# Altium schematic symbol library LVKON-MotorCtrl_YA.SCHLIB: 188 symbols (part 1 of 2)
Pins are listed as number, name and electrical type; pins without a type are passive.

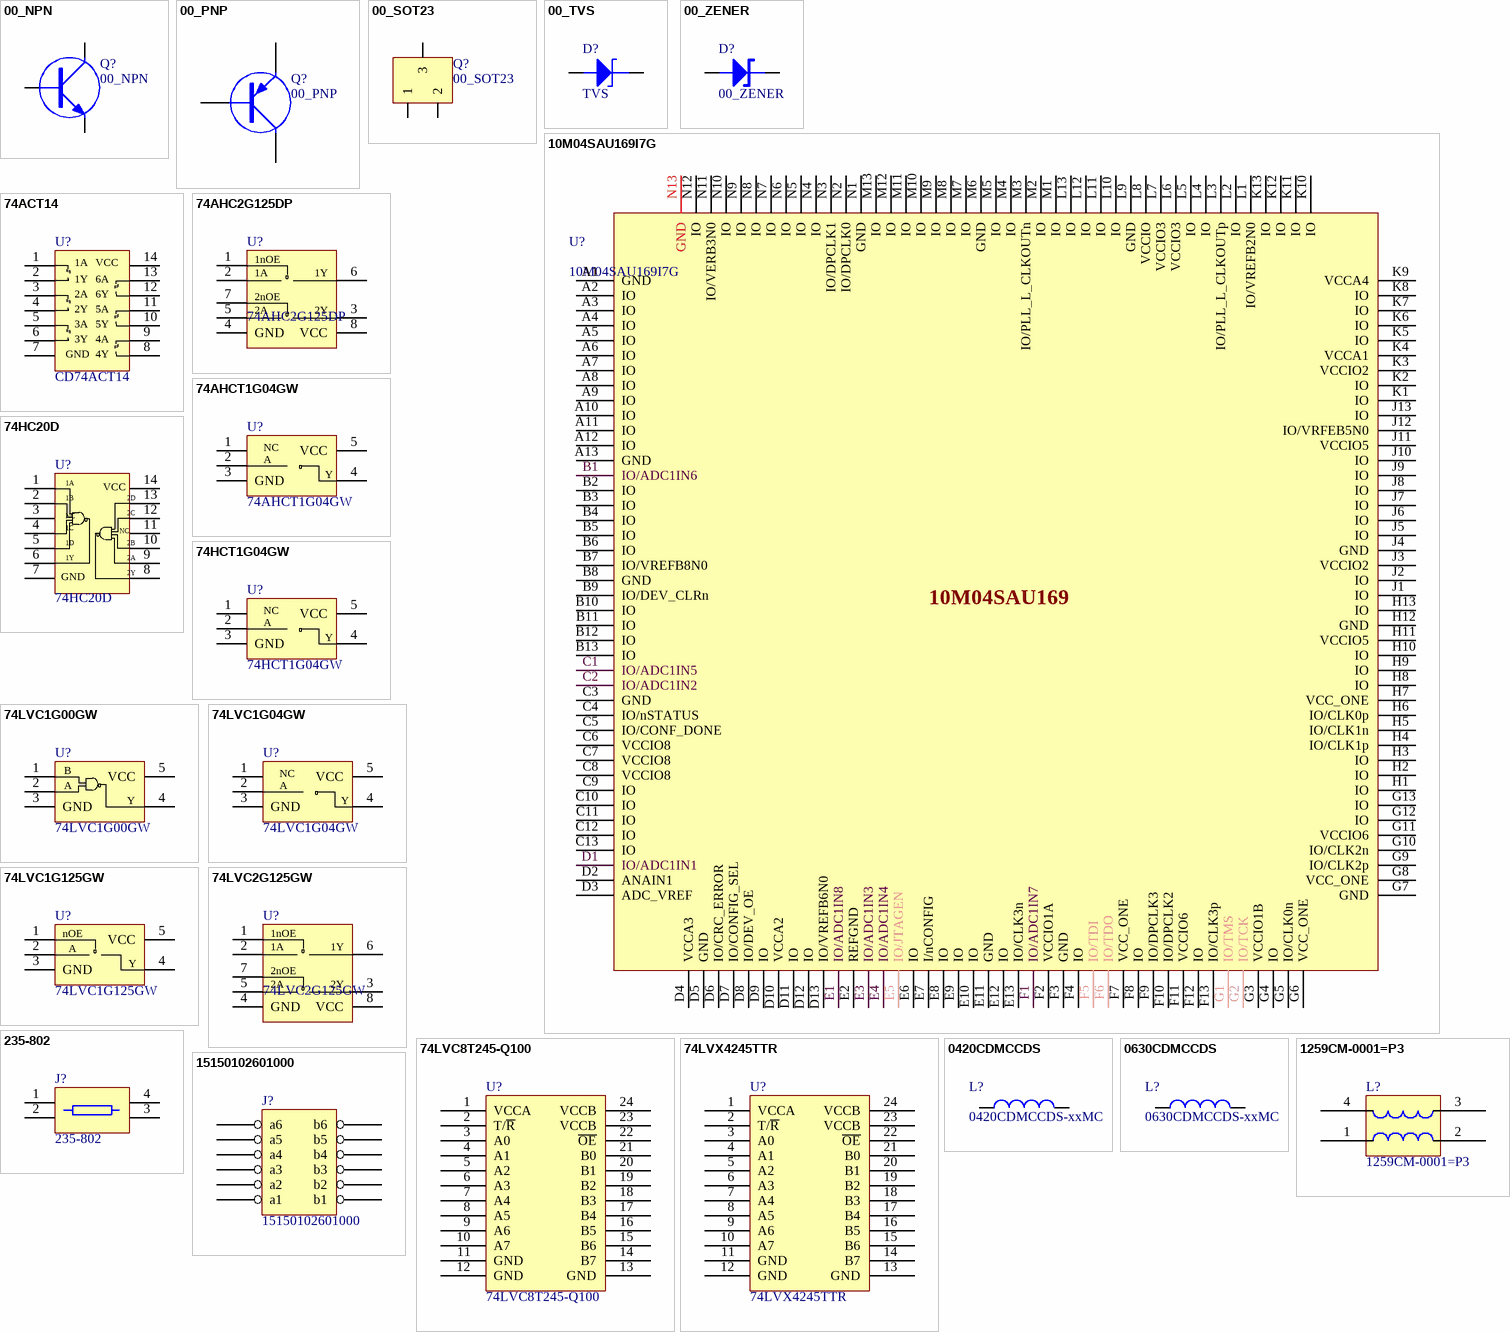
[diagram p0: symbols 00_NPN to 15150102601000]

## 00_NPN
designator Q?
NPN for Normal  Using
footprint TO252
pins: 1, 2, 3
2 alternate drawings of the same symbol

## 00_PNP
designator Q?
PNP Transistor
footprint SOT23
pins: 1 B, 2 C, 3 E
2 alternate drawings of the same symbol

## 00_SOT23
designator Q?
for normal SOT23 footprint
footprint SOT23
pins: 1, 2, 3
2 alternate drawings of the same symbol

## 00_TVS
designator D?, comment TVS
Zener Diode
footprint SMB (Molded Capacitor, 2-Leads, Body 5.40x3.60mm, IPC Medium Density)
pins: 1 K, 2 A
2 alternate drawings of the same symbol

## 00_ZENER
designator D?
footprint 1206D
pins: 1, 2

## 10M04SAU169I7G
designator U?
MAX10 devices are single-chip, non-volatile low-cost programmable logic devices (PLDs) to integrate  the optimal set of system components; Brand: Altera; Grade: Industrial; Power Dissipation: 1.362W; Supply Volatge: 3.3V/Single
footprint UBGA-169P (BGA, 169-Leads, Body 11.00x11.00mmx1.40mm, Pitch 0.80mm)
pins: A1 GND, A2 IO, A3 IO, A4 IO, A5 IO, A6 IO, A7 IO, A8 IO, A9 IO, A10 IO, A11 IO, A12 IO, A13 GND, B1 IO/ADC1IN6, B2 IO, B3 IO, B4 IO, B5 IO, B6 IO, B7 IO/VREFB8N0, B8 GND, B9 IO/DEV_CLRn, B10 IO, B11 IO, B12 IO, B13 IO, C1 IO/ADC1IN5, C2 IO/ADC1IN2, C3 GND, C4 IO/nSTATUS, C5 IO/CONF_DONE, C6 VCCIO8, C7 VCCIO8, C8 VCCIO8, C9 IO, C10 IO, C11 IO, C12 IO, C13 IO, D1 IO/ADC1IN1, D2 ANAIN1, D3 ADC_VREF, D4 VCCA3, D5 GND, D6 IO/CRC_ERROR, D7 IO/CONFIG_SEL, D8 IO/DEV_OE, D9 IO, D10 VCCA2, D11 IO, D12 IO, D13 IO/VREFB6N0, E1 IO/ADC1IN8, E2 REFGND, E3 IO/ADC1IN3, E4 IO/ADC1IN4, E5 IO/JTAGEN, E6 IO, E7 I/nCONFIG, E8 IO, E9 IO, E10 IO, E11 GND, E12 IO, E13 IO/CLK3n, F1 IO/ADC1IN7, F2 VCCIO1A, F3 GND, F4 IO, F5 IO/TDI, F6 IO/TDO, F7 VCC_ONE, F8 IO, F9 IO/DPCLK3, F10 IO/DPCLK2, F11 VCCIO6, F12 IO, F13 IO/CLK3p, G1 IO/TMS, G2 IO/TCK, G3 VCCIO1B, G4 IO, G5 IO/CLK0n, G6 VCC_ONE, G7 GND, G8 VCC_ONE, G9 IO/CLK2p, G10 IO/CLK2n, G11 VCCIO6, G12 IO, G13 IO, H1 IO, H2 IO, H3 IO, H4 IO/CLK1p, H5 IO/CLK1n, H6 IO/CLK0p, H7 VCC_ONE, H8 IO, H9 IO, H10 IO, H11 VCCIO5, H12 GND, H13 IO, J1 IO, J2 IO, J3 VCCIO2, J4 GND, J5 IO, J6 IO, J7 IO, J8 IO, J9 IO, J10 IO, J11 VCCIO5, J12 IO/VRFEB5N0, J13 IO, K1 IO, K2 IO, K3 VCCIO2, K4 VCCA1, K5 IO, K6 IO, K7 IO, K8 IO, K9 VCCA4, K10 IO, K11 IO, K12 IO, K13 IO, L1 IO/VREFB2N0, L2 IO, L3 IO/PLL_L_CLKOUTp, L4 IO, L5 IO, L6 VCCIO3, L7 VCCIO3, L8 VCCIO, L9 GND, L10 IO, L11 IO, L12 IO, L13 IO, M1 IO, M2 IO, M3 IO/PLL_L_CLKOUTn, M4 IO, M5 IO, M6 GND, M7 IO, M8 IO, M9 IO, M10 IO, M11 IO, M12 IO, M13 IO, N1 GND, N2 IO/DPCLK0, N3 IO/DPCLK1, N4 IO, N5 IO, N6 IO, N7 IO, N8 IO, N9 IO, N10 IO, N11 IO/VERB3N0, N12 IO, N13 GND
text: 10M04SAU169

## 74ACT14
designator U?, comment CD74ACT14
Hex Inverter Schmitt  Trigger
footprint SO-14
pins: 1 1A, 2 1Y, 3 2A, 4 2Y, 5 3A, 6 3Y, 7 GND, 8 4Y, 9 4A, 10 5Y, 11 5A, 12 6Y, 13 6A, 14 VCC

## 74AHC2G125DP
designator U?
Bus buffer/line driver; 3-state; Brand: Nexperia; supply voltage: 2-5.5V; Iout: 24mA; Operation Tempture: -40-+125℃
footprint TSSOP-8 (TSOP, 8-Leads, Body 3.00x3.00mm, Pitch 0.65mm, IPC Medium Density)
pins: 1, 2, 3, 4 GND, 5, 6 Y, 7, 8 VCC
text: 1nOE; 1A; 1Y; 2nOE; 2A; 2Y

## 74AHCT1G04GW
designator U?
74AHC1G04 and 74AHCT1G04 are high-speed Si-gate CMOS devices. They provide an  inverting buffer.; Brand: Nexperia; supply voltage: 4.5-5.5V; Iout: 12.5mA; Operation Tempture: -40-+125℃
footprint SOT353-1 (SOT23, 5-Leads, Body 2.05x2.13mm, Pitch 0.65mm, IPC Medium Density)
pins: 1 NC, 2 A, 3 GND, 4 Y, 5 VCC

## 74HC20D
designator U?
Dual 4-input NAND gate; Brand: Nexperia; Operation Tempture: -40-+125℃; tPHL/ tPLHmax: 135ns; tTHL/ tTLHmax: 110ns
footprint SO-14
pins: 1 1A, 2 1B, 3 NC, 4 1C, 5 1D, 6 1Y, 7 GND, 8 2Y, 9 2A, 10 2B, 11 NC, 12 2C, 13 2D, 14 VCC

## 74HCT1G04GW
designator U?
Single inverter; Brand: Nexperia; supply voltage: 4.5-5.5V; Iout: 12.5mA; Operation Tempture: -40-+125℃
footprint SOT353-1 (SOT23, 5-Leads, Body 2.05x2.13mm, Pitch 0.65mm, IPC Medium Density)
pins: 1 NC, 2 A, 3 GND, 4 Y, 5 VCC

## 74LVC1G00GW
designator U?
Single 2-input NAND gate; Brand: Nexperia; supply voltage: 1.65-5.5V; Iout: 24mA; Operation Tempture: -40-+125℃
footprint SOT353-1 (SOT23, 5-Leads, Body 2.05x2.13mm, Pitch 0.65mm, IPC Medium Density)
pins: 1 B, 2 A, 3 GND, 4 Y, 5 VCC

## 74LVC1G04GW
designator U?
Single inverter; Brand: Nexperia; supply voltage: 1.65-5.5V; Iout: 24mA; Operation Tempture: -40-+125℃
footprint SOT353-1 (SOT23, 5-Leads, Body 2.05x2.13mm, Pitch 0.65mm, IPC Medium Density)
pins: 1 NC, 2 A, 3 GND, 4 Y, 5 VCC

## 74LVC1G125GW
designator U?
Bus buffer/line driver; 3-state; Brand: Nexperia; supply voltage: 1.65-5.5V; Iout: 24mA; Operation Tempture: -40-+125℃
footprint SOT353-1 (SOT23, 5-Leads, Body 2.05x2.13mm, Pitch 0.65mm, IPC Medium Density)
pins: 1 ~{OE}, 2 A, 3 GND, 4 Y, 5 VCC
text: nOE

## 74LVC2G125GW
designator U?
Bus buffer/line driver; 3-state; Brand: Nexperia; supply voltage: 1.65-5.5V; Iout: 32mA; Operation Tempture: -40-+125℃; Logic switching levels: CMOS/LVTTL
footprint TSSOP-8 (TSOP, 8-Leads, Body 3.00x3.00mm, Pitch 0.65mm, IPC Medium Density)
pins: 1, 2, 3, 4 GND, 5, 6 Y, 7, 8 VCC
text: 1nOE; 1A; 1Y; 2nOE; 2A; 2Y

## 74LVC8T245-Q100
designator U?
OCTAL DUAL SUPPLY BUS TRANSCEIVER; Brand: Nxperia; VCCA: 4.5-5.5V; VCCB: 2.7-3.6V; Operating Temperature: -40+125℃
footprint TSSOP-24
pins: 1 VCCA, 2 T/~{R}, 3 A0, 4 A1, 5 A2, 6 A3, 7 A4, 8 A5, 9 A6, 10 A7, 11 GND, 12 GND, 13 GND, 14 B7, 15 B6, 16 B5, 17 B4, 18 B3, 19 B2, 20 B1, 21 B0, 22 ~{OE}, 23 VCCB, 24 VCCB

## 74LVX4245TTR
designator U?
OCTAL DUAL SUPPLY BUS TRANSCEIVER; Brand: ST; VCCA: 4.5-5.5V; VCCB: 2.7-3.6V; Operating Temperature: -55-+125℃
footprint TSSOP-24
pins: 1 VCCA, 2 T/~{R}, 3 A0, 4 A1, 5 A2, 6 A3, 7 A4, 8 A5, 9 A6, 10 A7, 11 GND, 12 GND, 13 GND, 14 B7, 15 B6, 16 B5, 17 B4, 18 B3, 19 B2, 20 B1, 21 B0, 22 ~{OE}, 23 VCCB, 24 VCCB

## 235-802
designator J?
Connector; Brand: WAGO
footprint WAGO235-802
pins: 1, 2, 3, 4

## 0420CDMCCDS
designator L?, comment 0420CDMCCDS-xxMC
SMD power inductors; Brand: Sumdia; Value: 22uH; Irms: 1.8A
footprint L0420
pins: 1, 2

## 0630CDMCCDS
designator L?, comment 0630CDMCCDS-xxMC
SMD power inductors; Brand: Sumdia; Value: 33uH; Irms: 1.8A
footprint L0630
pins: 1, 2

## 1259CM-0001=P3
designator L?
SMD type high current use common mode choke UCMH0907  series; Brand: Murata; Idc_max: 5A; Rdc: 10mR; Udc: 80V
footprint 1259CM-0001=P3
pins: 1 O+, 2 I+, 3 I-, 4 O-

## 15150102601000
designator J?
Connector board-2-board,2x6,male; Brand: Harting
footprint 15150102601000
pins: a1, a2, a3, a4, a5, a6, b1, b2, b3, b4, b5, b6

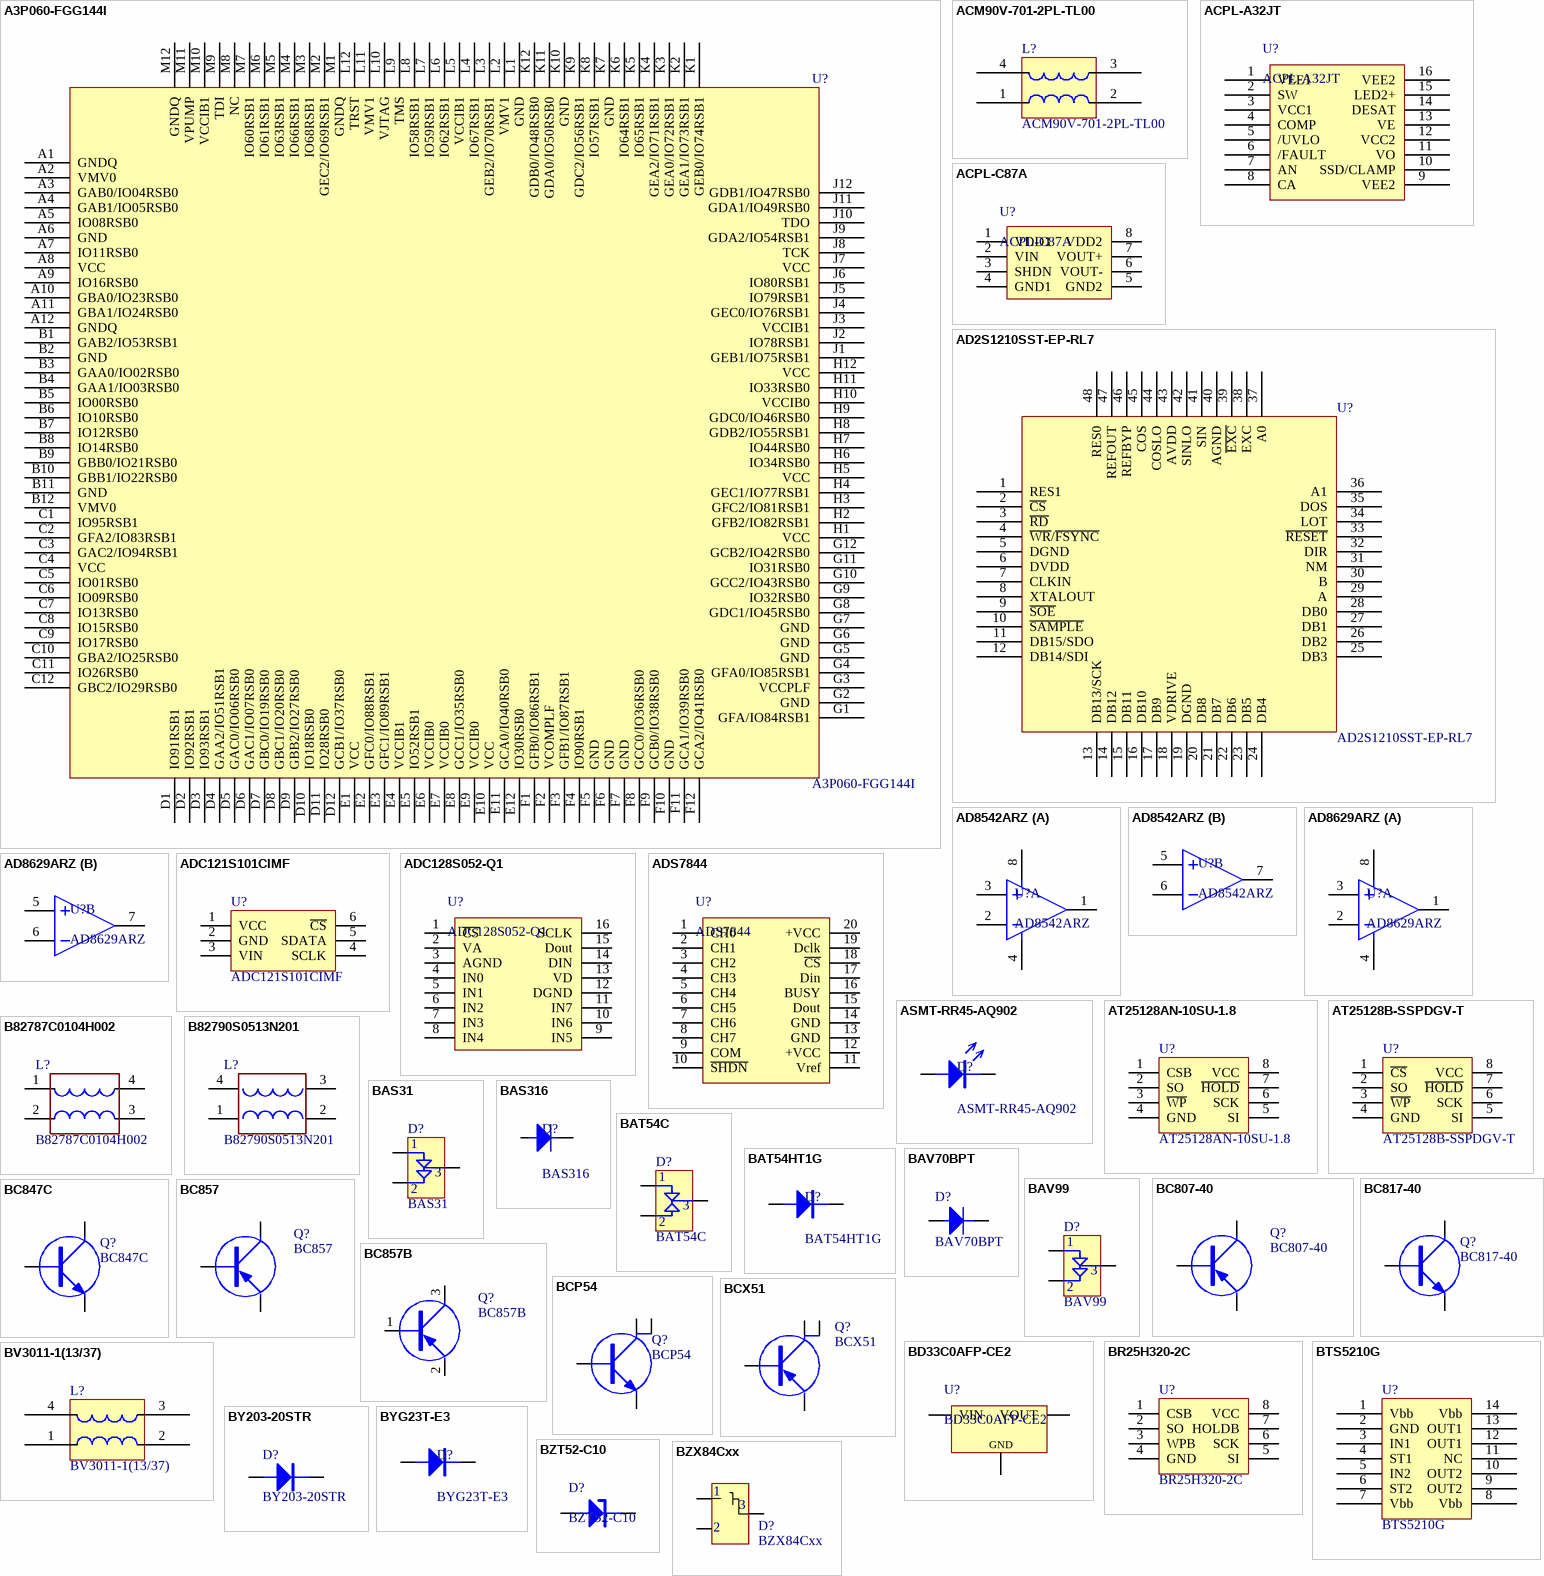
[diagram p1: symbols A3P060-FGG144I to BZX84Cxx]

## A3P060-FGG144I
designator U?
ProASIC3 Flash Family FPGAs  with Optional Soft ARM® Support; Brand: Actel; System Gates: 600 k; RAM kbits: 108; FlashROM Bits: 1 k; Operating temperature: -40-85
footprint FBGA-144P
pins: A1 GNDQ, A2 VMV0, A3 GAB0/IO04RSB0, A4 GAB1/IO05RSB0, A5 IO08RSB0, A6 GND, A7 IO11RSB0, A8 VCC, A9 IO16RSB0, A10 GBA0/IO23RSB0, A11 GBA1/IO24RSB0, A12 GNDQ, B1 GAB2/IO53RSB1, B2 GND, B3 GAA0/IO02RSB0, B4 GAA1/IO03RSB0, B5 IO00RSB0, B6 IO10RSB0, B7 IO12RSB0, B8 IO14RSB0, B9 GBB0/IO21RSB0, B10 GBB1/IO22RSB0, B11 GND, B12 VMV0, C1 IO95RSB1, C2 GFA2/IO83RSB1, C3 GAC2/IO94RSB1, C4 VCC, C5 IO01RSB0, C6 IO09RSB0, C7 IO13RSB0, C8 IO15RSB0, C9 IO17RSB0, C10 GBA2/IO25RSB0, C11 IO26RSB0, C12 GBC2/IO29RSB0, D1 IO91RSB1, D2 IO92RSB1, D3 IO93RSB1, D4 GAA2/IO51RSB1, D5 GAC0/IO06RSB0, D6 GAC1/IO07RSB0, D7 GBC0/IO19RSB0, D8 GBC1/IO20RSB0, D9 GBB2/IO27RSB0, D10 IO18RSB0, D11 IO28RSB0, D12 GCB1/IO37RSB0, E1 VCC, E2 GFC0/IO88RSB1, E3 GFC1/IO89RSB1, E4 VCCIB1, E5 IO52RSB1, E6 VCCIB0, E7 VCCIB0, E8 GCC1/IO35RSB0, E9 VCCIB0, E10 VCC, E11 GCA0/IO40RSB0, E12 IO30RSB0, F1 GFB0/IO86RSB1, F2 VCOMPLF, F3 GFB1/IO87RSB1, F4 IO90RSB1, F5 GND, F6 GND, F7 GND, F8 GCC0/IO36RSB0, F9 GCB0/IO38RSB0, F10 GND, F11 GCA1/IO39RSB0, F12 GCA2/IO41RSB0, G1 GFA/IO84RSB1, G2 GND, G3 VCCPLF, G4 GFA0/IO85RSB1, G5 GND, G6 GND, G7 GND, G8 GDC1/IO45RSB0, G9 IO32RSB0, G10 GCC2/IO43RSB0, G11 IO31RSB0, G12 GCB2/IO42RSB0, H1 VCC, H2 GFB2/IO82RSB1, H3 GFC2/IO81RSB1, H4 GEC1/IO77RSB1, H5 VCC, H6 IO34RSB0, H7 IO44RSB0, H8 GDB2/IO55RSB1, H9 GDC0/IO46RSB0, H10 VCCIB0, H11 IO33RSB0, H12 VCC, J1 GEB1/IO75RSB1, J2 IO78RSB1, J3 VCCIB1, J4 GEC0/IO76RSB1, J5 IO79RSB1, J6 IO80RSB1, J7 VCC, J8 TCK, J9 GDA2/IO54RSB1, J10 TDO, J11 GDA1/IO49RSB0, J12 GDB1/IO47RSB0, K1 GEB0/IO74RSB1, K2 GEA1/IO73RSB1, K3 GEA0/IO72RSB1, K4 GEA2/IO71RSB1, K5 IO65RSB1, K6 IO64RSB1, K7 GND, K8 IO57RSB1, K9 GDC2/IO56RSB1, K10 GND, K11 GDA0/IO50RSB0, K12 GDB0/IO48RSB0, L1 GND, L2 VMV1, L3 GEB2/IO70RSB1, L4 IO67RSB1, L5 VCCIB1, L6 IO62RSB1, L7 IO59RSB1, L8 IO58RSB1, L9 TMS, L10 VJTAG, L11 VMV1, L12 TRST, M1 GNDQ, M2 GEC2/IO69RSB1, M3 IO68RSB1, M4 IO66RSB1, M5 IO63RSB1, M6 IO61RSB1, M7 IO60RSB1, M8 NC, M9 TDI, M10 VCCIB1, M11 VPUMP, M12 GNDQ
2 alternate drawings of the same symbol

## ACM90V-701-2PL-TL00
designator L?
Brand: TDK; Idc_max: 5A; Rdc: 10mR; Udc: 80V
footprint ACM90V-701-2PL-TL00
pins: 1 O+, 2 I+, 3 I-, 4 O-

## ACPL-A32JT
designator U?
Automotive 2.5 Amp Gate Drive Optocoupler with Integrated Flyback Controller for Isolated DC-DC Converter, Integrated IGBT Desat Overcurrent Sensing, Miller Current Clamping and UVLO Feedback; regulated output voltage: 20V; peak output current: 2.5A max; miller clamp sinking current: 1.7A max; input voltage range: 8-18V; propagation delay: 250ns max; Brand: Avago; temperature range: -40-125℃
footprint SO-16-WIDE (SOIC, 16-Leads, Body 10.43x0.20mm, Pitch 1.27mm, IPC Medium Density)
pins: 1 VEE1, 2 SW, 3 VCC1, 4 COMP, 5 /UVLO, 6 /FAULT, 7 AN, 8 CA, 9 VEE2, 10 SSD/CLAMP, 11 VO, 12 VCC2, 13 VE, 14 DESAT, 15 LED2+, 16 VEE2

## ACPL-C87A
designator U?
Precision Optically Isolated Voltage Sensor; VDD1: 4.5-5.5V; VDD2: 3-5V; Brand: Avago; VIN: 0-2V; Operating Temperature: -40-105℃
footprint SSO-8 (SOP, 8-Leads, Body 5.85x6.81mm, Pitch 1.27mm, IPC Medium Density)
pins: 1 VDD1, 2 VIN, 3 SHDN, 4 GND1, 5 GND2, 6 VOUT-, 7 VOUT+, 8 VDD2

## AD2S1210SST-EP-RL7
designator U?
Variable Resolution, 10-Bit to 16-Bit R/D  Converter with Reference Oscillator; Brand: Analog Devices; Operation Temperature: -40°C to +125°C
footprint LQFP-48 (TSQFP, 48-Leads, Body 7.00x7.00mm, Pitch 0.50mm, IPC Medium Density)
pins: 1 RES1, 2 ~{CS}, 3 ~{RD}, 4 ~{WR}/~{FSYNC}, 5 DGND, 6 DVDD, 7 CLKIN, 8 XTALOUT, 9 ~{SOE}, 10 ~{SAMPLE}, 11 DB15/SDO, 12 DB14/SDI, 13 DB13/SCK, 14 DB12, 15 DB11, 16 DB10, 17 DB9, 18 VDRIVE, 19 DGND, 20 DB8, 21 DB7, 22 DB6, 23 DB5, 24 DB4, 25 DB3, 26 DB2, 27 DB1, 28 DB0, 29 A, 30 B, 31 NM, 32 DIR, 33 ~{RESET}, 34 LOT, 35 DOS, 36 A1, 37 A0, 38 EXC, 39 ~{EXC}, 40 AGND, 41 SIN, 42 SINLO, 43 AVDD, 44 COSLO, 45 COS, 46 REFBYP, 47 REFOUT, 48 RES0

## AD8542ARZ
designator U?
Rail to Rail  AMP; VDD1: 4.5-5.5V; VDD2: 3-5V; Brand: Avago; VIN: 0-2V; Operating Temperature: -40-105℃
footprint SOIC-8 (SOIC, 8-Leads, Body 4.90x3.90mm, Pitch 1.27mm, IPC Medium Density)
part A pins: 1, 2, 3, 4, 8
part B pins: 5, 6, 7

## AD8629ARZ
designator U?
Rail to Rail  AMP; Input voltage supply: 0-5V; Brand: ADI; Operating Temperature: -40-125℃
footprint SOIC-8 (SOIC, 8-Leads, Body 4.90x3.90mm, Pitch 1.27mm, IPC Medium Density)
part A pins: 1, 2, 3, 4, 8
part B pins: 5, 6, 7

## ADC121S101CIMF
designator U?
ADC121S101/ADC101S101/ADC081S101  1MSPS, 12-/10-/8-Bit A/D Converters in SOT-23 & LLP; Brand: National Semiconductor; Operation Tempreature: -40-+125℃
footprint SOT23-6
pins: 1 VCC, 2 GND, 3 VIN, 4 SCLK, 5 SDATA, 6 ~{CS}

## ADC128S052-Q1
designator U?
ADC128S052, ADC128S052-Q1 8-Channel, 200 kSPS to 500 kSPS, 12-Bit A/D Converter; Brand: TI; TEMPERATURE: -40 to 125
footprint TSSOP-16
pins: 1 ~{CS}, 2 VA, 3 AGND, 4 IN0, 5 IN1, 6 IN2, 7 IN3, 8 IN4, 9 IN5, 10 IN6, 11 IN7, 12 DGND, 13 VD, 14 DIN, 15 Dout, 16 SCLK

## ADS7844
designator U?
12-Bit, 8-Channel Serial Output Sampling  ANALOG-TO-DIGITAL CONVERTER; Brand: TI; TEMPERATURE: -40 to 85
footprint SSOP-20
pins: 1 CH0, 2 CH1, 3 CH2, 4 CH3, 5 CH4, 6 CH5, 7 CH6, 8 CH7, 9 COM, 10 ~{SHDN}, 11 Vref, 12 +VCC, 13 GND, 14 GND, 15 Dout, 16 BUSY, 17 Din, 18 ~{CS}, 19 Dclk, 20 +VCC

## ASMT-RR45-AQ902
designator D?
0.45mm Leadframe-Based Surface Mount ChipLED; Brand: AVAGO; colour: red; package: 0603; operating temperature: -40-100℃
footprint LED0603
pins: 1 K, 2 A

## AT25128AN-10SU-1.8
designator U?
SPI Serial  EEPROMs; Brand: Atmel; Operating Temperature: -55 -+125℃
footprint SOIC-8 (SOIC, 8-Leads, Body 4.90x3.90mm, Pitch 1.27mm, IPC Medium Density)
pins: 1 CSB, 2 SO, 3 ~{WP}, 4 GND, 5 SI, 6 SCK, 7 ~{HOLD}, 8 VCC

## AT25128B-SSPDGV-T
designator U?
SPI Serial  EEPROMs; Brand: Atmel; MARK: 8S1; Operating Temperature: -40 -+125℃
footprint SOIC-8 (SOIC, 8-Leads, Body 4.90x3.90mm, Pitch 1.27mm, IPC Medium Density)
pins: 1 ~{CS}, 2 SO, 3 ~{WP}, 4 GND, 5 SI, 6 SCK, 7 ~{HOLD}, 8 VCC

## B82787C0104H002
designator L?
Common-mode chokes, ring core; Brand: EPCOS; Rated voltage: DC50V; Lr: 100uH; Ir: 150mA
footprint B82787C0104H002
pins: 1, 2, 3, 4

## B82790S0513N201
designator L?
Common-mode chokes, ring core; Brand: EPCOS; Rated voltage: AC42V,DC80V; Lr: 0.051mH; Ir: 200 to 1000mA
footprint B82790S0513N201
pins: 1, 2, 3, 4

## BAS31
designator D?
Dual In-Series General-Purpose  Controlled-Avalanche Diode; Brand: Nexperia; IRRM: 600mA; IF: 150mA; Operation Temperature: -40-+125℃; MARK: WV1
footprint SOT23
pins: 1, 2, 3

## BAS316
designator D?
High-speed switching diodes; Brand: NXP; Reverse voltage: 100V; MARK: A6; Reverse recovery  time: 4ns
footprint SOD323
pins: 1, 2

## BAT54C
designator D?
Small Signal Schottky Diodes,Dual; Brand: VISHAY; IRRM: 300mA; IF: 200mA; Operation Temperature: -40-+125℃; MARK: L43; Ptot: 230mW; Repetitive peak reverse voltage: 30V
footprint SOT23
pins: 1, 2, 3

## BAT54HT1G
designator D?
Schottky Barrier Diodes; Brand: ON Semiconductor; junction temperature: -55-150℃; reverse voltage: 30V; forward voltage: 0.35V
footprint SOD323
pins: 1 K, 2 A
2 alternate drawings of the same symbol

## BAV70BPT
designator D?
FAST SWITCHING DIODE  VOLTAGE RANGE 100 Volts CURRENT 150 mAmpere; Brand: NXP; Reverse voltage: 100V; MARK: S1; Reverse recovery  time: 4ns; VF: 0.715-1.25V; Power dissipation: 350mW
footprint SOD123 (SODFL, 2-Leads, Body 1.60x3.70mm, IPC Medium Density)
pins: 1, 2

## BAV99
designator D?
High-speed switching diodes, encapsulated in small Surface-Mounted Device; Brand: General Semconductor/NXP; IRRM: 500mA; IF: 125mA; Operation Temperature: -40-+125℃; reverse voltage: 100V; MARK: A7
footprint SOT23
pins: 1, 2, 3

## BC807-40
designator Q?
-45 V, -500 mA  PNP general-purpose transistors; Brand: Nexperia; Mark: 5CW; VCBOmax: -45V; VEBOmax: -5V; Ic: -500mA; Icm: -1A; Ib: -0.3A; Ptot: 0.65W; VCEOmax: -45V
footprint SOT23
pins: 1 B, 2 E, 3 C

## BC817-40
designator Q?
45 V, 500 mA  NPN general-purpose transistors; Brand: Nexperia; Mark: 6CW; VCBOmax: 45V; VEBOmax: 5V; Ic: 500mA; Icm: 1A; Ib: 0.3A; Ptot: 0.65W; VCEOmax: 45V
footprint SOT23
pins: 1 B, 2 E, 3 C

## BC847C
designator Q?
45 V, 100 mA NPN general-purpose transistors; Brand: Nexperia; Mark: 1GW; VCBOmax: 45V; VEBOmax: 5V; Ic: 100mA; Icm: 200mA; Ib: 0.2A; Ptot: 0.25W; VCEOmax: 45V
footprint SOT23
pins: 1 B, 2 E, 3 C
2 alternate drawings of the same symbol

## BC857
designator Q?
-45 V, -100 mA  PNP general-purpose transistors; Brand: Nexperia; VCBOmax: -45V; VEBOmax: -5V; Ic: -100mA; Icm: -200mA; Ib: -0.3A; Ptot: 0.65W; VCEOmax: -45V
footprint SOT23
pins: 1 B, 2 E, 3 C
2 alternate drawings of the same symbol

## BC857B
designator Q?
-45 V, -100 mA  PNP general-purpose transistors; Brand: Nexperia; VCBOmax: -45V; VEBOmax: -5V; Ic: -100mA; Icm: -200mA; Ib: -0.3A; Ptot: 0.65W; VCEOmax: -45V
footprint SOT23
pins: 1 B, 2 E, 3 C
2 alternate drawings of the same symbol

## BCP54
designator Q?
NPN medium power transistor series in Surface-Mounted Device (SMD) plastic packages; Brand: Nexperia; VCBOmax: 45V; VEBOmax: 5V; Ic: 1A; Icm: 2A; Ib: 0.3A; Ptot: 0.65W; Mark: BCP54; VCEOmax: 45V
footprint SOT223 (SOT223, 4-Leads, Body 6.50x7.00mm (avg), Pitch 2.30mm, IPC Medium Density)
pins: 1 B, 2 C, 3 E, 4 C
2 alternate drawings of the same symbol

## BCX51
designator Q?
PNP medium power transistors 45 V, 1 A; Brand: Nexpeira; Mark: BCP54; VCBOmax: -45V; VEBOmax: -5V; Ic: -1A; Icm: -2A; Ib: -0.3A; Ptot: 0.65W; VCEOmax: -45V
footprint SOT89-1 (SOT89, 3-Leads, Body 4.50x2.45mm, Pitch 1.50mm, Lead Span 4.1mm, IPC Medium Density)
pins: 1 E, 2 C, 2 C, 3 B
2 alternate drawings of the same symbol

## BD33C0AFP-CE2
designator U?
35V Voltage Resistance  1A LDO Regulators; Brand: ROHM; Vin: 4.3-26.5V; Level: AECQ100; Iout_max: 1A; Operating Temperature Range: -40 to +125°C
footprint TO252-132
pins: 1 VIN, 2 GND, 3 VOUT

## BR25H320-2C
designator U?
SPI Serial  EEPROMs; Brand: ROHM; MARK: H320; Grade: AECQ100; Capacity: 32Kb; Supply Voltage: 2.5~5.5V; Operating Temperature: -40 -+125℃
footprint SOP-8
pins: 1 CSB, 2 SO, 3 WPB, 4 GND, 5 SI, 6 SCK, 7 HOLDB, 8 VCC

## BTS5210G
designator U?
Smart High-Side  Power Switch; Brand: Infineon; Supply voltage: 43V; IL: 3.4-3.9A; Operating temperature: -40+150
footprint PG-DSO-14-37
pins: 1 Vbb, 2 GND, 3 IN1, 4 ST1, 5 IN2, 6 ST2, 7 Vbb, 8 Vbb, 9 OUT2, 10 OUT2, 11 NC, 12 OUT1, 13 OUT1, 14 Vbb

## BV3011-1(13/37)
designator L?
footprint DFT-4
pins: 1 O+, 2 I+, 3 I-, 4 O-

## BY203-20STR
designator D?
Fast Avalanche Sinterglass Diode; Brand: VISHAY
footprint BY203
pins: 1, 2
2 alternate drawings of the same symbol

## BYG23T-E3
designator D?
Ultrafast Power Rectifier; Brand: VISHAY; junction temperature: -65-175℃; forward voltage: 1.74V@1A,150℃; peak repetitive reverse voltage: 1300V; average rectified forward current: 1A
footprint SMA (SODFL, 2-Leads, Body 2.60x5.30mm, IPC Medium Density)
pins: 1 K, 2 A

## BZT52-C10
designator D?
Zener Voltage Regulators; Brand: Nexperia; Power Dissipation: 500mW; Zener reverse voltage: 10V
footprint SOD123 (SODFL, 2-Leads, Body 1.60x3.70mm, IPC Medium Density)
pins: 1, 2

## BZX84Cxx
designator D?
350mW ZENER DIODE; Brand: Nexperia; Vfmax: 0.9V; If: 10mA
footprint SOT23
pins: 1, 2, 3

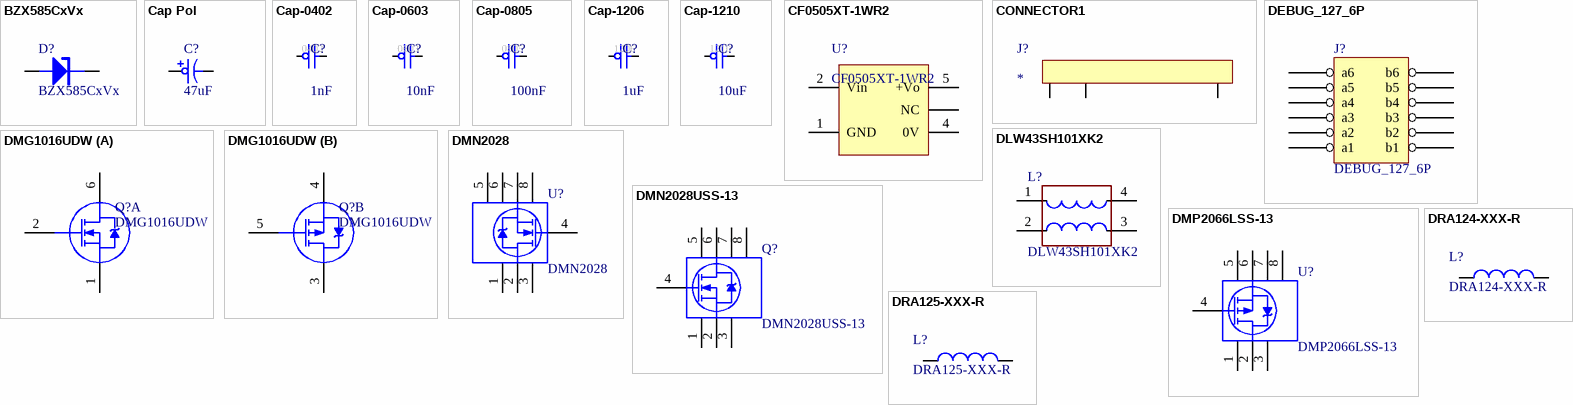
[diagram p2: symbols BZX585CxVx to DRA125-XXX-R]

## BZX585CxVx
designator D?
For all DIODES Using; Brand: Nexperia; MARK: Ex; Power Dissipation: 300mW
footprint SOD523
pins: 1, 2

## Cap Pol
designator C?, comment 47uF
Polarized Capacitor (Axial)  For DIP and SMD; Published: 14-Jul-2017; LatestRevisionDate: 14-Jul-2017; LatestRevisionNote: Re-released for DXP Platform.; PackageReference: POLAR0.8; Publisher: Altium Limited; PackageDescription: Polarized Capacitor; 2 Leads; Value: 47uF
footprint RB0.2/0.4
footprint CE
pins: 1, 2
1 alternate drawing of the same symbol

## Cap-0402
designator C?, comment 1nF
For SMD Capacitor; Published: 13-Jul-2017; LatestRevisionDate: 13-Jul-2017; LatestRevisionNote: Re-released for DXP Platform.; Publisher: Altium Limited; PackageDescription: Chip Cap; Value: 1nF
footprint C0402
pins: 1, 2
text: 0402

## Cap-0603
designator C?, comment 10nF
For SMD Capacitor; Published: 13-Jul-2017; LatestRevisionDate: 13-Jul-2017; LatestRevisionNote: Re-released for DXP Platform.; Publisher: Altium Limited; PackageDescription: Chip Cap; Value: 10nF
footprint C0603
pins: 1, 2
text: 0603

## Cap-0805
designator C?, comment 100nF
For SMD Capacitor; Published: 13-Jul-2017; LatestRevisionDate: 13-Jul-2017; LatestRevisionNote: Re-released for DXP Platform.; Publisher: Altium Limited; PackageDescription: Chip Cap; Value: 100nF
footprint C0805
pins: 1, 2
text: 0805

## Cap-1206
designator C?, comment 1uF
For SMD Capacitor; Published: 13-Jul-2017; LatestRevisionDate: 13-Jul-2017; LatestRevisionNote: Re-released for DXP Platform.; Publisher: Altium Limited; PackageDescription: Chip Cap; Value: 1uF
footprint C1206
pins: 1, 2
text: 1206

## Cap-1210
designator C?, comment 10uF
For SMD Capacitor; Published: 13-Jul-2017; LatestRevisionDate: 13-Jul-2017; LatestRevisionNote: Re-released for DXP Platform.; Publisher: Altium Limited; PackageDescription: Chip Cap; Value: 10uF
footprint C1210
pins: 1, 2
text: 1210

## CF0505XT-1WR2
designator U?
1W，定电压输入，隔离非稳压单路输出; Brand: MORNSUN; Isolate DC: 3500V
footprint CF0505XT-1WR2
pins: 1 GND, 2 Vin, 4 0V, 5 +Vo, 8 NC

## CONNECTOR1
designator J?
footprint 支架1
pins: 1, 1, 1

## DEBUG_127_6P
designator J?
Connector board-2-board,2x6,male; Brand: *
footprint DEBUG_127_6P (Footprint not found)
pins: a1, a2, a3, a4, a5, a6, b1, b2, b3, b4, b5, b6

## DLW43SH101XK2
designator L?
Common-mode chokes, ring core; Brand: Murata; Rated voltage: DC50V; Lr: 100uH; Ir: 150mA
footprint DLW43SH101XK2 (Footprint not found)
pins: 1, 2, 3, 4

## DMG1016UDW
designator Q?
COMPLEMENTARY PAIR ENHANCEMENT MODE MOSFET; Brand: DIODES; VDSS(Q1): 20V; VGSS(Q1): ±6V; VDSS(Q2): -20V; Id(Q1): 690-1066mA; Id(Q1): -548 to -845mA; VGSS(Q2): ±6V
footprint SOT363
part A pins: 1, 2, 6
part B pins: 3, 4, 5

## DMN2028
designator U?
20V N-CHANNEL ENHANCEMENT MODE MOSFET; Brand: DIODES; VDSS: 20V
footprint SO-8
pins: 1, 2, 3, 4, 5, 6, 7, 8

## DMN2028USS-13
designator Q?
20V N-CHANNEL ENHANCEMENT MODE MOSFET; Brand: DIODES; Gate-Source voltage: ±12; Id: 7.9A; Power dissipation: 1.56W; Drain-Source voltage: 20V
footprint SOIC-8 (SOIC, 8-Leads, Body 4.90x3.90mm, Pitch 1.27mm, IPC Medium Density)
pins: 1, 2, 3, 4, 5, 6, 7, 8

## DMP2066LSS-13
designator U?
SINGLE P-CHANNEL ENHANCEMENT MODE MOSFET; Brand: DIODES; Drain-Source Voltage: -20V; Idmax: -6.5A
footprint SOIC-8 (SOIC, 8-Leads, Body 4.90x3.90mm, Pitch 1.27mm, IPC Medium Density)
pins: 1, 2, 3, 4, 5, 6, 7, 8

## DRA124-XXX-R
designator L?
Automotive grade high current power inductors; Brand: EATON; Value: 33uH; Irms: 1.8A; DCR: 242mO
footprint L12124
pins: 1, 2

## DRA125-XXX-R
designator L?
Automotive grade high current power inductors; Brand: EATON; Value: 33uH; Irms: 1.8A; DCR: 242mO
footprint L12126
pins: 1, 2

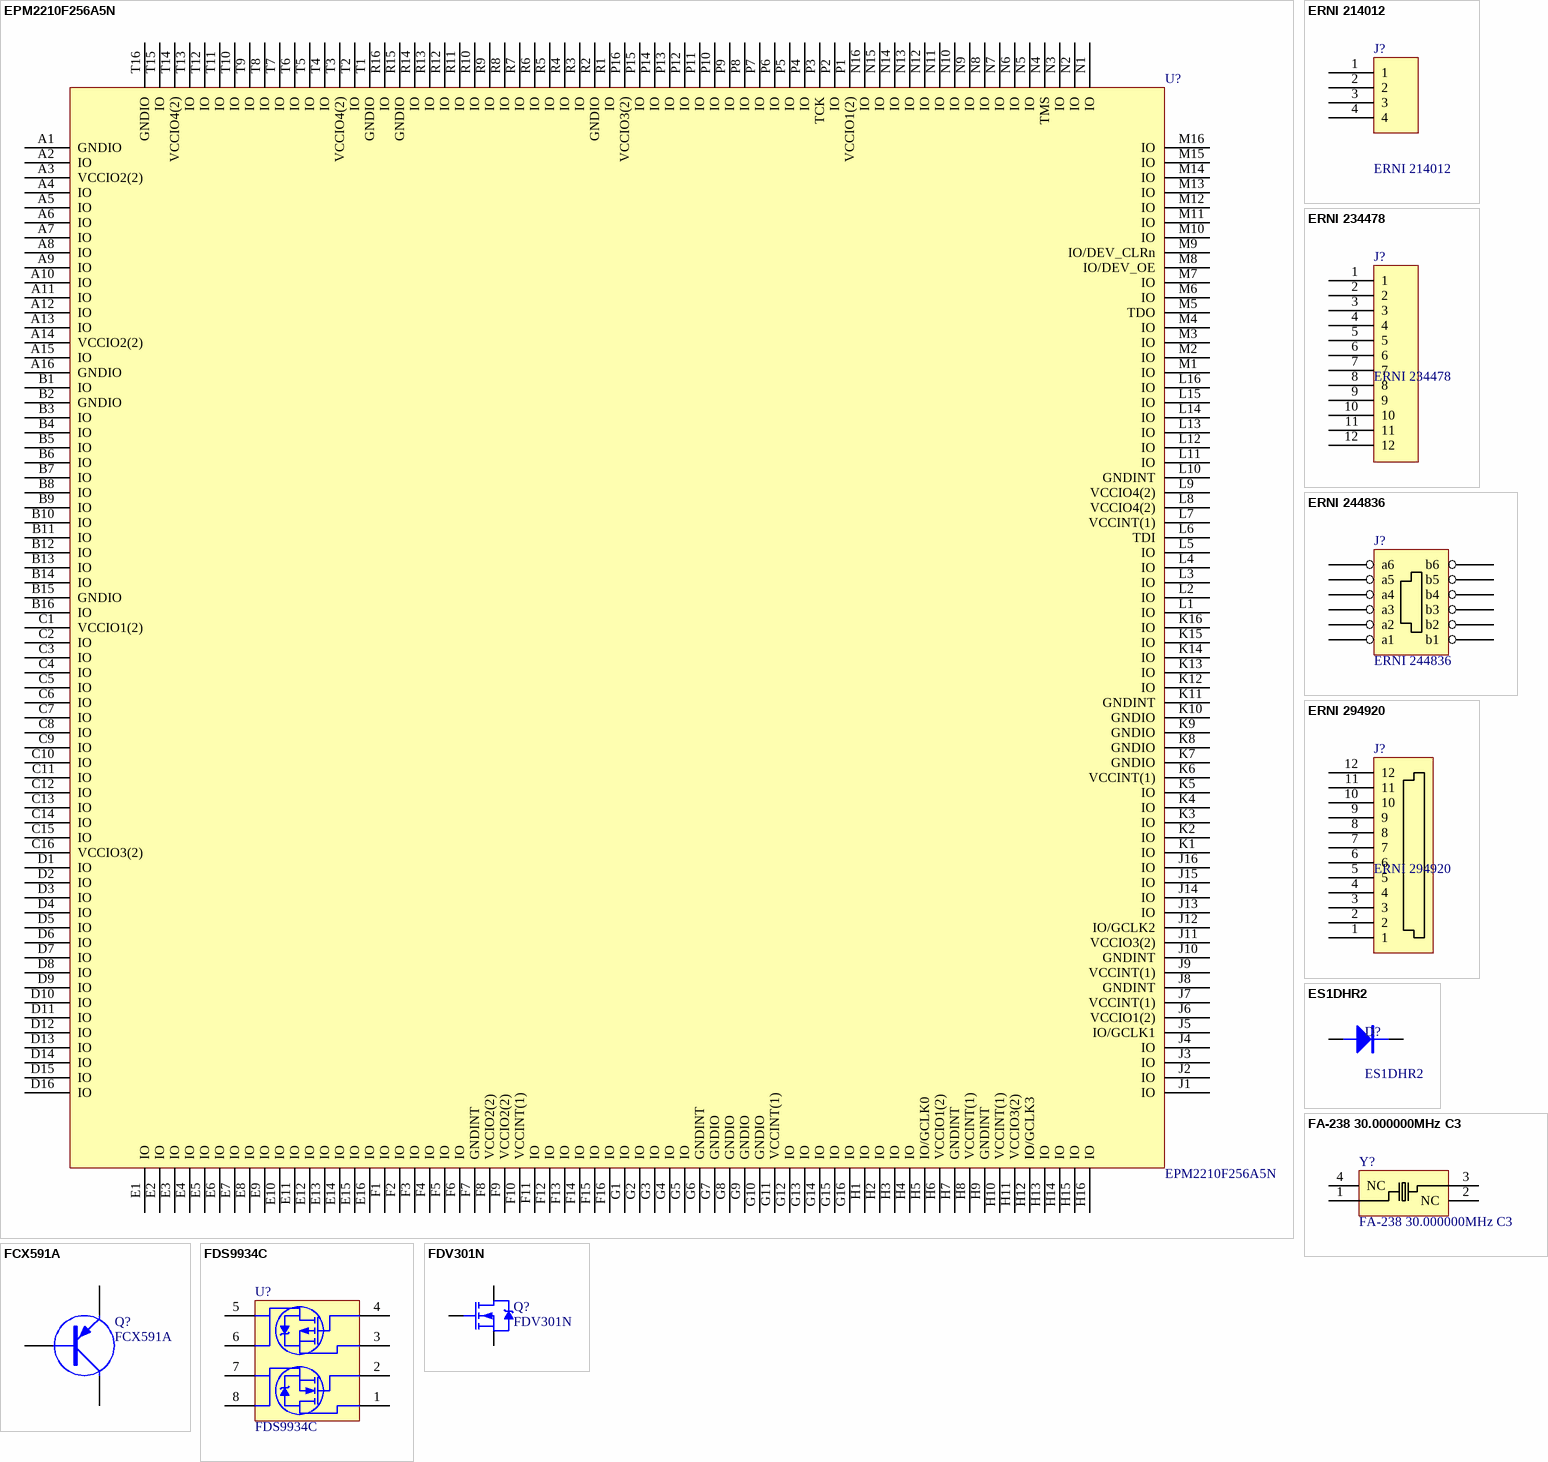
[diagram p3: symbols EPM2210F256A5N to FDV301N]

## EPM2210F256A5N
designator U?
Brand: ALtera
footprint FBGA-256P
pins: A1 GNDIO, A2 IO, A3 VCCIO2(2), A4 IO, A5 IO, A6 IO, A7 IO, A8 IO, A9 IO, A10 IO, A11 IO, A12 IO, A13 IO, A14 VCCIO2(2), A15 IO, A16 GNDIO, B1 IO, B2 GNDIO, B3 IO, B4 IO, B5 IO, B6 IO, B7 IO, B8 IO, B9 IO, B10 IO, B11 IO, B12 IO, B13 IO, B14 IO, B15 GNDIO, B16 IO, C1 VCCIO1(2), C2 IO, C3 IO, C4 IO, C5 IO, C6 IO, C7 IO, C8 IO, C9 IO, C10 IO, C11 IO, C12 IO, C13 IO, C14 IO, C15 IO, C16 VCCIO3(2), D1 IO, D2 IO, D3 IO, D4 IO, D5 IO, D6 IO, D7 IO, D8 IO, D9 IO, D10 IO, D11 IO, D12 IO, D13 IO, D14 IO, D15 IO, D16 IO, E1 IO, E2 IO, E3 IO, E4 IO, E5 IO, E6 IO, E7 IO, E8 IO, E9 IO, E10 IO, E11 IO, E12 IO, E13 IO, E14 IO, E15 IO, E16 IO, F1 IO, F2 IO, F3 IO, F4 IO, F5 IO, F6 IO, F7 GNDINT, F8 VCCIO2(2), F9 VCCIO2(2), F10 VCCINT(1), F11 IO, F12 IO, F13 IO, F14 IO, F15 IO, F16 IO, G1 IO, G2 IO, G3 IO, G4 IO, G5 IO, G6 GNDINT, G7 GNDIO, G8 GNDIO, G9 GNDIO, G10 GNDIO, G11 VCCINT(1), G12 IO, G13 IO, G14 IO, G15 IO, G16 IO, H1 IO, H2 IO, H3 IO, H4 IO, H5 IO/GCLK0, H6 VCCIO1(2), H7 GNDINT, H8 VCCINT(1), H9 GNDINT, H10 VCCINT(1), H11 VCCIO3(2), H12 IO/GCLK3, H12 IO, H13 IO, H14 IO, H15 IO, H16 IO, J1 IO, J2 IO, J3 IO, J4 IO, J5 IO/GCLK1, J6 VCCIO1(2), J7 VCCINT(1), J8 GNDINT, J9 VCCINT(1), J10 GNDINT, J11 VCCIO3(2), J12 IO/GCLK2, J13 IO, J14 IO, J15 IO, J16 IO, K1 IO, K2 IO, K3 IO, K4 IO, K5 IO, K6 VCCINT(1), K7 GNDIO, K8 GNDIO, K9 GNDIO, K10 GNDIO, K11 GNDINT, K12 IO, K13 IO, K14 IO, K15 IO, K16 IO, L1 IO, L2 IO, L3 IO, L4 IO, L5 IO, L6 TDI, L7 VCCINT(1), L8 VCCIO4(2), L9 VCCIO4(2), L10 GNDINT, L11 IO, L12 IO, L13 IO, L14 IO, L15 IO, L16 IO, M1 IO, M2 IO, M3 IO, M4 IO, M5 TDO, M6 IO, M7 IO, M8 IO/DEV_OE, M9 IO/DEV_CLRn, M10 IO, M11 IO, M12 IO, M13 IO, M14 IO, M15 IO, M16 IO, N1 IO, N2 IO, N3 IO, N4 TMS, N5 IO, N6 IO, N7 IO, N8 IO, N9 IO, N10 IO, N11 IO, N12 IO, N13 IO, N14 IO, N15 IO, N16 IO, P1 VCCIO1(2), P2 IO, P3 TCK, P4 IO, P5 IO, P6 IO, P7 IO, P8 IO, P9 IO, P10 IO, P11 IO, P12 IO, P13 IO, P14 IO, P15 IO, P16 VCCIO3(2), R1 IO, R2 GNDIO, R3 IO, R4 IO, R5 IO, R6 IO, R7 IO, R8 IO, R9 IO, R10 IO, R11 IO, R12 IO, R13 IO, R14 IO, R15 GNDIO, R16 IO, T1 GNDIO, T2 IO, T3 VCCIO4(2), T4 IO, T5 IO, T6 IO, T7 IO, T8 IO, T9 IO, T10 IO, T11 IO, T12 IO, T13 IO, T14 VCCIO4(2), T15 IO, T16 GNDIO
2 alternate drawings of the same symbol

## ERNI 214012
designator J?
Connector line-2-board,1x4,male; Brand: ERNI
footprint ERNI 214012
pins: 1, 2, 3, 4

## ERNI 234478
designator J?
Connector line-2-board,1x12,male; Brand: ERNI
footprint ERNI 234478
pins: 1, 2, 3, 4, 5, 6, 7, 8, 9, 10, 11, 12

## ERNI 244836
designator J?
Connector board-2-board,2x6,male; Brand: ERNI
footprint ERNI 244836
pins: a1, a2, a3, a4, a5, a6, b1, b2, b3, b4, b5, b6

## ERNI 294920
designator J?
Connector line-2-board,1x12,male
footprint ERNI 294920
pins: 1, 2, 3, 4, 5, 6, 7, 8, 9, 10, 11, 12

## ES1DHR2
designator D?
SMA ultra fast low-loss  controlled avalanche rectifiers; Brand: TSC; junction temperature: -65-175℃; reverse voltage: 200V; forward voltage: 1.1V; forward current: 1A; reverse current: 5uA; reverse recovery time: 25ns
footprint SMA (SODFL, 2-Leads, Body 2.60x5.30mm, IPC Medium Density)
pins: 1 K, 2 A

## FA-238 30.000000MHz C3
designator Y?
Crystal  30M; Brand: SEIKO EPSON
footprint Y3225
pins: 1, 2 NC, 3, 4 NC

## FCX591A
designator Q?
40V PNP SILICON PLANAR MEDIUM POWER TRANSISTOR IN SOT89; Vceo: -40V; Ic: -1A; Vcesat: -500mV@-1A; Brand: DIODES
footprint SOT89 (SOT89, 3-Leads, Body 4.50x2.45mm, Pitch 1.50mm, Lead Span 4.1mm, IPC Medium Density)
pins: 1 B, 2 C, 3 E
2 alternate drawings of the same symbol

## FDS9934C
designator U?
Dual N-and P-Channel; Brand: FairChid; Q1_Drain-Source Voltage: 20; Q2_Drain-Source Voltage: -20; Q1_Id: 6.5A; Q2_Id: -5A; Q2_Vgss: ±10V; Q1_Vgss: ±12V
footprint SOIC-8 (SOIC, 8-Leads, Body 4.90x3.90mm, Pitch 1.27mm, IPC Medium Density)
pins: 1, 2, 3, 4, 5, 6, 7, 8

## FDV301N
designator Q?
Digital  FET,N-Channel; Brand: FAIRCHILD; Vdss: 25V; Rds(on): 3.8R; Id: 200mA
footprint SOT23
pins: 1 G, 2 S, 3 D
2 alternate drawings of the same symbol

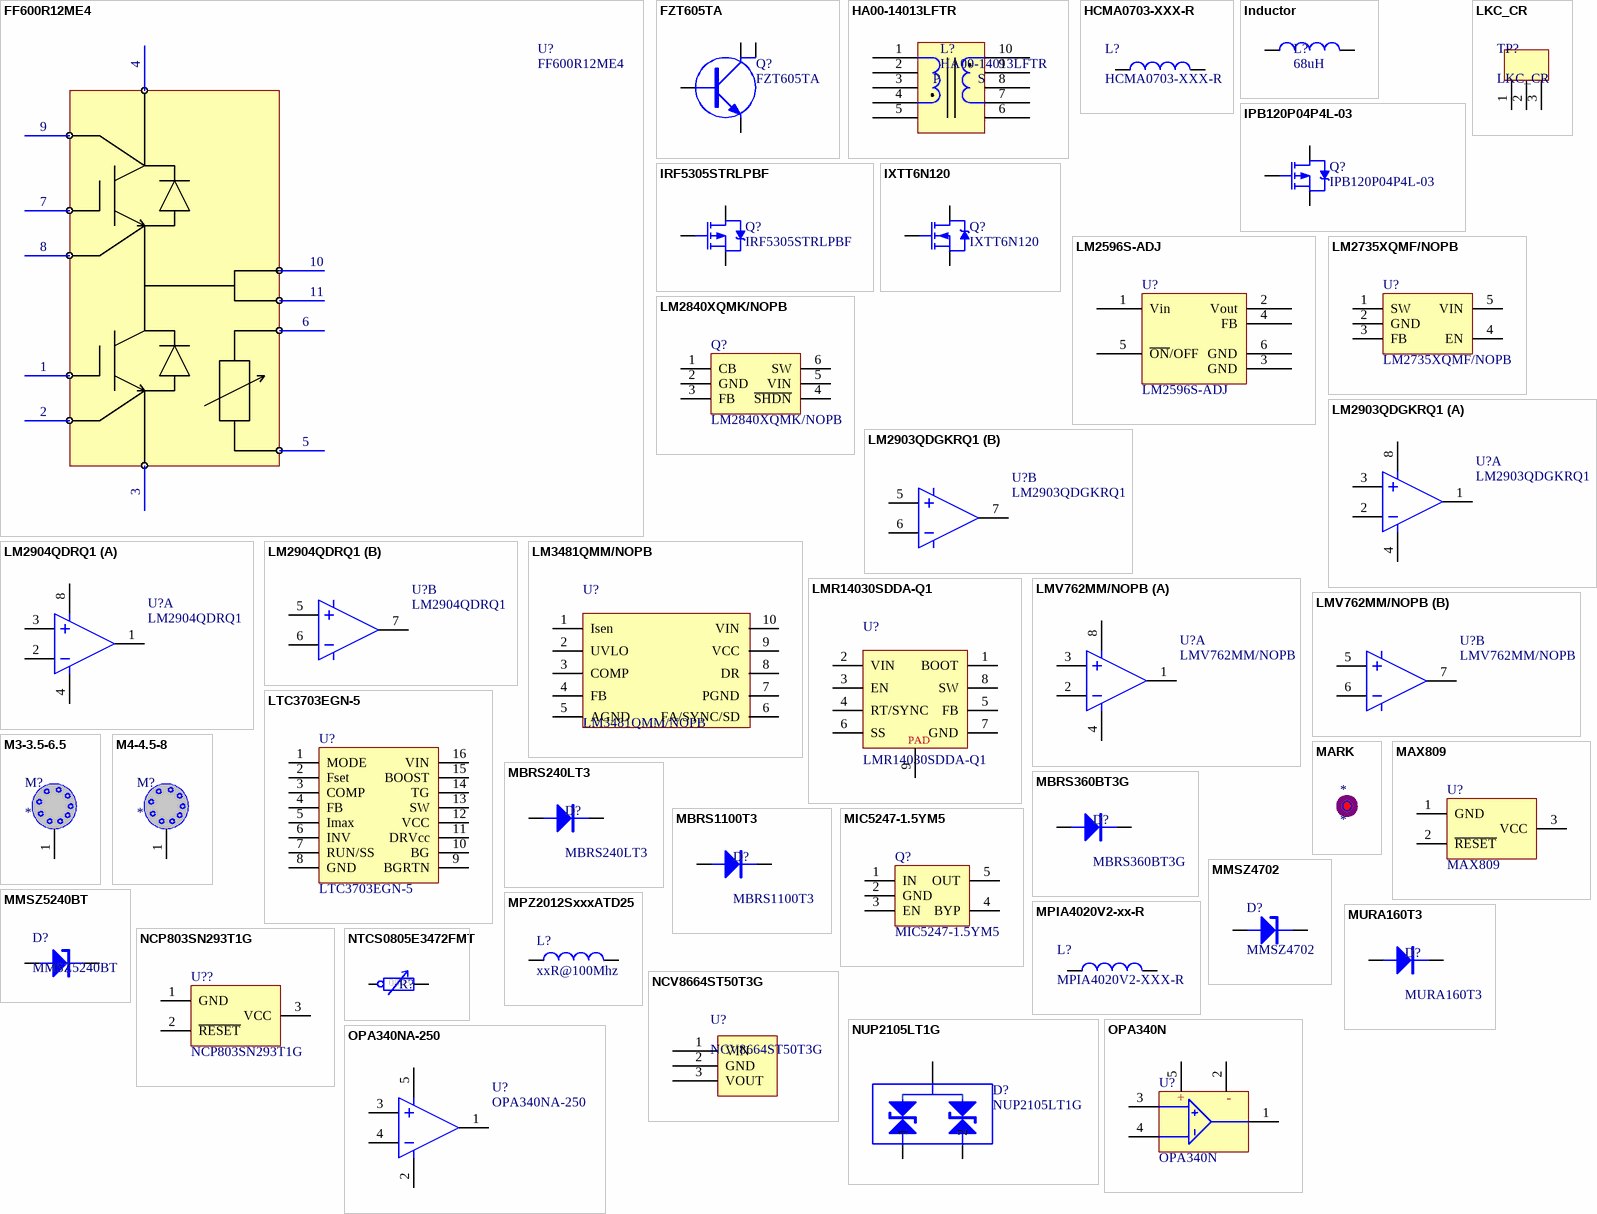
[diagram p4: symbols FF600R12ME4 to OPA340NA-250]

## FF600R12ME4
designator U?
EconoDUAL™3 module with trench/fieldstop IGBT4 and Emitter Controlled Diode and NTC; Vces: 1200V; Brand: Infineon; Icnom: 600A; Icrm: 1200A
text: 4; 9; 7; 8; 10; 11; 6; 1; 2; 5; 3

## FZT605TA
designator Q?
120V NPN DARLINGTON TRANSISTOR IN SOT223; Brand: DIODES; VCBOmax: 140V; VEBOmax: 14V; Ic: 1.5A; Icm: 4A; Ib: 0.3A; Ptot: 1.5W; VCEOmax: 120V
footprint SOT223 (SOT223, 4-Leads, Body 6.50x7.00mm (avg), Pitch 2.30mm, IPC Medium Density)
pins: 1 B, 2 C, 3 E, 4 C
2 alternate drawings of the same symbol

## HA00-14013LFTR
designator L?
High Voltage  Isolation Transformer; DC resistance: 450mOhm@primary, 3.2Ohm@secondary; Brand: TT ELECTRONICS; Operation Temperature: –40 to +155; inductance: 60uH±20%@100kHz，100mV; Input voltage: 8-18V; turn ratio: 1：2; saturation current: 600mAdc; Hipot（Pri-Sec）: 2.5kVac，60sec; Power Rating: 10-30W
footprint HA00-14013LFTR (SOP, 10-Leads, Body 11.90x8.50mm, Pitch 2.00mm, IPC Medium Density)
pins: 1, 2, 3, 4, 5, 6, 7, 8, 9, 10
text: P; S

## HCMA0703-XXX-R
designator L?
Automotive grade high current power inductors; Brand: EATON; Value: 33uH; Irms: 1.8A; DCR: 242mO
footprint HCMA0703-XXX-R
pins: 1, 2

## Inductor
designator L?, comment 68uH
Symbol for all Inductor
footprint CD4 (Precision Wire Wound Inductor, 2-Leads, Body 4.20x4.00mm, IPC Medium Density)
footprint CD5 (Precision Wire Wound Inductor, 2-Leads, Body 5.20x5.00mm, IPC Medium Density)
footprint CDRH6 (Precision Wire Wound Inductor, 2-Leads, Body 6.60x6.30mm, IPC Medium Density)
footprint CDRH7 (Precision Wire Wound Inductor, 2-Leads, Body 7.70x7.30mm, IPC Medium Density)
footprint CDRH12 (Precision Wire Wound Inductor, 2-Leads, Body 13.10x12.80mm, IPC Medium Density)
pins: 1, 2

## IPB120P04P4L-03
designator Q?
P-Channel Power MOSFET; Brand: IR; Vdss: -40V; Rds(on): 3mR; Id: -120A
footprint TO263
pins: 1 G, 2 S, 3 D

## IRF5305STRLPBF
designator Q?
P-Channel Power MOSFET; Brand: IR; Vdss: -55V; Rds(on): 60mR; Id: -31A
footprint TO252
pins: 1 G, 2 S, 3 D
2 alternate drawings of the same symbol

## IXTT6N120
designator Q?
N-Channel 1200-6A-V (D-S) 175 °C MOSFET; Brand: IXYS; Vdss: 1200V; Rds(on): 2.6R; Id: 6A
footprint TO268
pins: 1 G, 2 S, 3 D
2 alternate drawings of the same symbol

## LKC_CR
designator TP?
TestPoint  Conductive Rubber
footprint TP-1
pins: 1, 2, 3

## LM2596S-ADJ
designator U?
Buck; Brand: TI
footprint TO263-5
pins: 1 Vin, 2 Vout, 3 GND, 4 FB, 5 ~{ON}/OFF, 6 GND

## LM2735XQMF/NOPB
designator U?
LM2735-xx 520-kHz and 1.6-MHz Space-Efficient Boost and SEPIC DC-DC Regulator; Brand: TI; Vin: 2.7-5.5V; Vout: 3-24V; Brand: SVDB
footprint SOT23-5
pins: 1 SW, 2 GND, 3 FB, 4 EN, 5 VIN

## LM2840XQMK/NOPB
designator Q?
Step-Down DC/DC Regulator in Thin SOT; Brand: TI; Vin: 4.5 to 42V; Vfb: 0.765V; Iout_max: 100mA
footprint SOT23-6
pins: 1 CB, 2 GND, 3 FB, 4 ~{SHDN}, 5 VIN, 6 SW

## LM2903QDGKRQ1
designator U?
Low Voltage, Precision Comparator with Push-Pull Output; Brand: TI; MARK: KACQ; Supply Voltage: 2-30V; Input Bias Current: 25pA; Input Offset Current: 5nA; Input Offset Voltage: 2mV; Output current: 20mA; Response time: 1.3us
footprint VSSOP-8
part A pins: 1, 2, 3, 4, 8
part B pins: 5, 6, 7

## LM2904QDRQ1
designator U?
Dual Operational Amplifiers; Brand: TI; MARK: LM2904Q1; Supply Voltage: 26V; Level: AECQ100
footprint SOIC-8 (SOIC, 8-Leads, Body 4.90x3.90mm, Pitch 1.27mm, IPC Medium Density)
part A pins: 1, 2, 3, 4, 8
part B pins: 5, 6, 7

## LM3481QMM/NOPB
designator U?
LM3481 / -Q1 High-Efficiency Controller for Boost, SEPIC and Flyback DC-DC Converters; Brand: TI; MARK: SJBP; Vin: 4-40V; Iout: 2A; Vfb: 1.275V; Price: 1.6 D
footprint VSSOP-10
pins: 1 Isen, 2 UVLO, 3 COMP, 4 FB, 5 AGND, 6 FA/SYNC/SD, 7 PGND, 8 DR, 9 VCC, 10 VIN

## LMR14030SDDA-Q1
designator U?
SIMPLE SWITCHER 40V 3.5A、2.2MHz降压转换器; Brand: TI; MARK: DB3SP; Vin: 4-40V; Iout: 3.5A; Vfb: 0.750V; Price: 1.6 D
footprint HSOIC-8
pins: 1 BOOT, 2 VIN, 3 EN, 4 RT/SYNC, 5 FB, 6 SS, 7 GND, 8 SW, 9
text: PAD

## LMV762MM/NOPB
designator U?
Low Voltage, Precision Comparator with Push-Pull Output; Brand: TI; MARK: C23A; Supply Voltage: 5.5V
footprint VSSOP-8
part A pins: 1, 2, 3, 4, 8
part B pins: 5, 6, 7

## LTC3703EGN-5
designator U?
60V Synchronous  Switching Regulator  Controller; Brand: Linear; VFB: 0.8V; Vin_max: 60V
footprint SSOP-16
pins: 1 MODE, 2 Fset, 3 COMP, 4 FB, 5 Imax, 6 INV, 7 RUN/SS, 8 GND, 9 BGRTN, 10 BG, 11 DRVcc, 12 VCC, 13 SW, 14 TG, 15 BOOST, 16 VIN

## M3-3.5-6.5
designator M?
footprint M3-3.5/6.5 (Footprint not found)
pins: 1

## M4-4.5-8
designator M?
footprint M4-4.5/8
pins: 1

## MARK
designator *
footprint MARK
pins: 0

## MAX809
designator U?
3-Pin Microprocessor Reset Circuits; Brand: MAXIM
footprint SOT23
pins: 1 GND, 2 ~{RESET}, 3 VCC

## MBRS240LT3
designator D?
Schottky Power Rectifier; Brand: ON Semiconductor; junction temperature: -55-125℃; forward voltage: 0.43V; peak repetitive reverse voltage: 40V; average rectified forward current: 2A; peak repetitive forward current: 4A; voltage rate of change: 10000V/us
footprint SMB (Molded Capacitor, 2-Leads, Body 5.40x3.60mm, IPC Medium Density)
pins: 1 K, 2 A
2 alternate drawings of the same symbol

## MBRS360BT3G
designator D?
Schottky Barrier Diodes; Brand: ON; junction temperature: -55-150℃; reverse voltage: 60V; Vfmax: 0.63V; IF: 3A
footprint SMB (Molded Capacitor, 2-Leads, Body 5.40x3.60mm, IPC Medium Density)
pins: 1 K, 2 A
2 alternate drawings of the same symbol

## MBRS1100T3
designator D?
Schottky Power Package; Brand: ON Semiconductor; junction temperature: -65-150℃; forward voltage: 0.75V; peak repetitive reverse voltage: 100V; average rectified forward current: 2A@100℃; peak repetitive forward current: 4A; voltage rate of change: 10V/ns
footprint SMB (Molded Capacitor, 2-Leads, Body 5.40x3.60mm, IPC Medium Density)
pins: 1 K, 2 A
2 alternate drawings of the same symbol

## MIC5247-1.5YM5
designator Q?
150mA Low-Voltage μCap Linear Regulator; Brand: Micrel; VIN: 2.7-6V; Marking: LU15; Junction  Temp. Range: –40ºC to +125ºC
footprint SOT23-5
pins: 1 IN, 2 GND, 3 EN, 4 BYP, 5 OUT

## MMSZ4702
designator D?
Zener diode; Brand: ON Semiconductor; Zener reverse voltage: 15V; pead power: 225W@20us; juction temperature: -55-150℃
footprint SOD123 (SODFL, 2-Leads, Body 1.60x3.70mm, IPC Medium Density)
pins: 1, 2
2 alternate drawings of the same symbol

## MMSZ5240BT
designator D?
Zener Voltage Regulators; Brand: ON; Power Dissipation: 500mW; Zener reverse voltage: 10V
footprint SOD123 (SODFL, 2-Leads, Body 1.60x3.70mm, IPC Medium Density)
pins: 1, 2

## MPIA4020V2-xx-R
designator L?, comment MPIA4020V2-XXX-R
Automotive grade high current power inductors; Brand: EATON; Value: xxuH; Irms: xxA; DCR: 350mO; Grade: AEC-Q200
footprint MPIA4020V2-XXX-R
pins: 1, 2

## MPZ2012SxxxATD25
designator L?, comment xxR@100Mhz
EMC Components  For Power; Brand: TDK; Operation Temperature: –55 to +125; Grade: AECQ100; Value: xxR@100Mhz
footprint L0805
pins: 1, 2

## MURA160T3
designator D?
Ultrafast Power Rectifier; Brand: ON Semiconductor; junction temperature: -65-175℃; forward voltage: 1.05V@1A,150℃; peak repetitive reverse voltage: 600V; average rectified forward current: 2A@110℃
footprint SMA (SODFL, 2-Leads, Body 2.60x5.30mm, IPC Medium Density)
pins: 1 K, 2 A
2 alternate drawings of the same symbol

## NCP803SN293T1G
designator U??
Very Low Supply Current  3-Pin Microprocessor  Reset Monitor; Brand: ON; Vth: 2.89-2.96; Operating Temperature: -40~105℃
footprint SOT23
pins: 1 GND, 2 ~{RESET}, 3 VCC

## NCV8664ST50T3G
designator U?
Ultra−Low Iq Low Dropout  Linear Regulator; Brand: ON Semiconductors; Vout: 5V; Accuracy: ±2%; Vin: 5.5-45V; Junction Temperature: -40-150
footprint SOT223 (SOT223, 4-Leads, Body 6.50x7.00mm (avg), Pitch 2.30mm, IPC Medium Density)
pins: 1 VIN, 2 GND, 3 VOUT

## NTCS0805E3472FMT
designator R?  (value not drawn)
NTC; Value: 4.7K@25℃; Brand: VISHAY
footprint R0805
pins: 1, 2
text: 0805

## NUP2105LT1G
designator D?
Dual Line CAN  Bus Protector; Brand: ON; Reverse Working Voltage: 24V; Breakdown Voltage: 26.2-32V; Clamping Voltage: 40V; Reverse Leakage Current: 15-100nA
footprint SOT23
pins: 1, 2, 3

## OPA340N
designator U?
SINGLE-SUPPLY, RAIL-TO-RAIL  OPERATIONAL AMPLIFIERS  MicroAmplifier Series; Brand: TI; Supply Voltage: 5.5V; PACKAGE MARKING: A40; Input Offset Voltage: ±500uV; Input Bias Current: ±10pA; Gain-Bandwidth Product: 5.5MHz; Slew Rate: 6V/us; Operating Temperature: –55 to +125
footprint SOT23-5
pins: 1 OUT, 2 V-, 3 +IN, 4 -IN, 5 V+
text: +; -

## OPA340NA-250
designator U?
Brand: Burr_Brown/TI
footprint SOT23-5
pins: 1, 2, 3, 4, 5

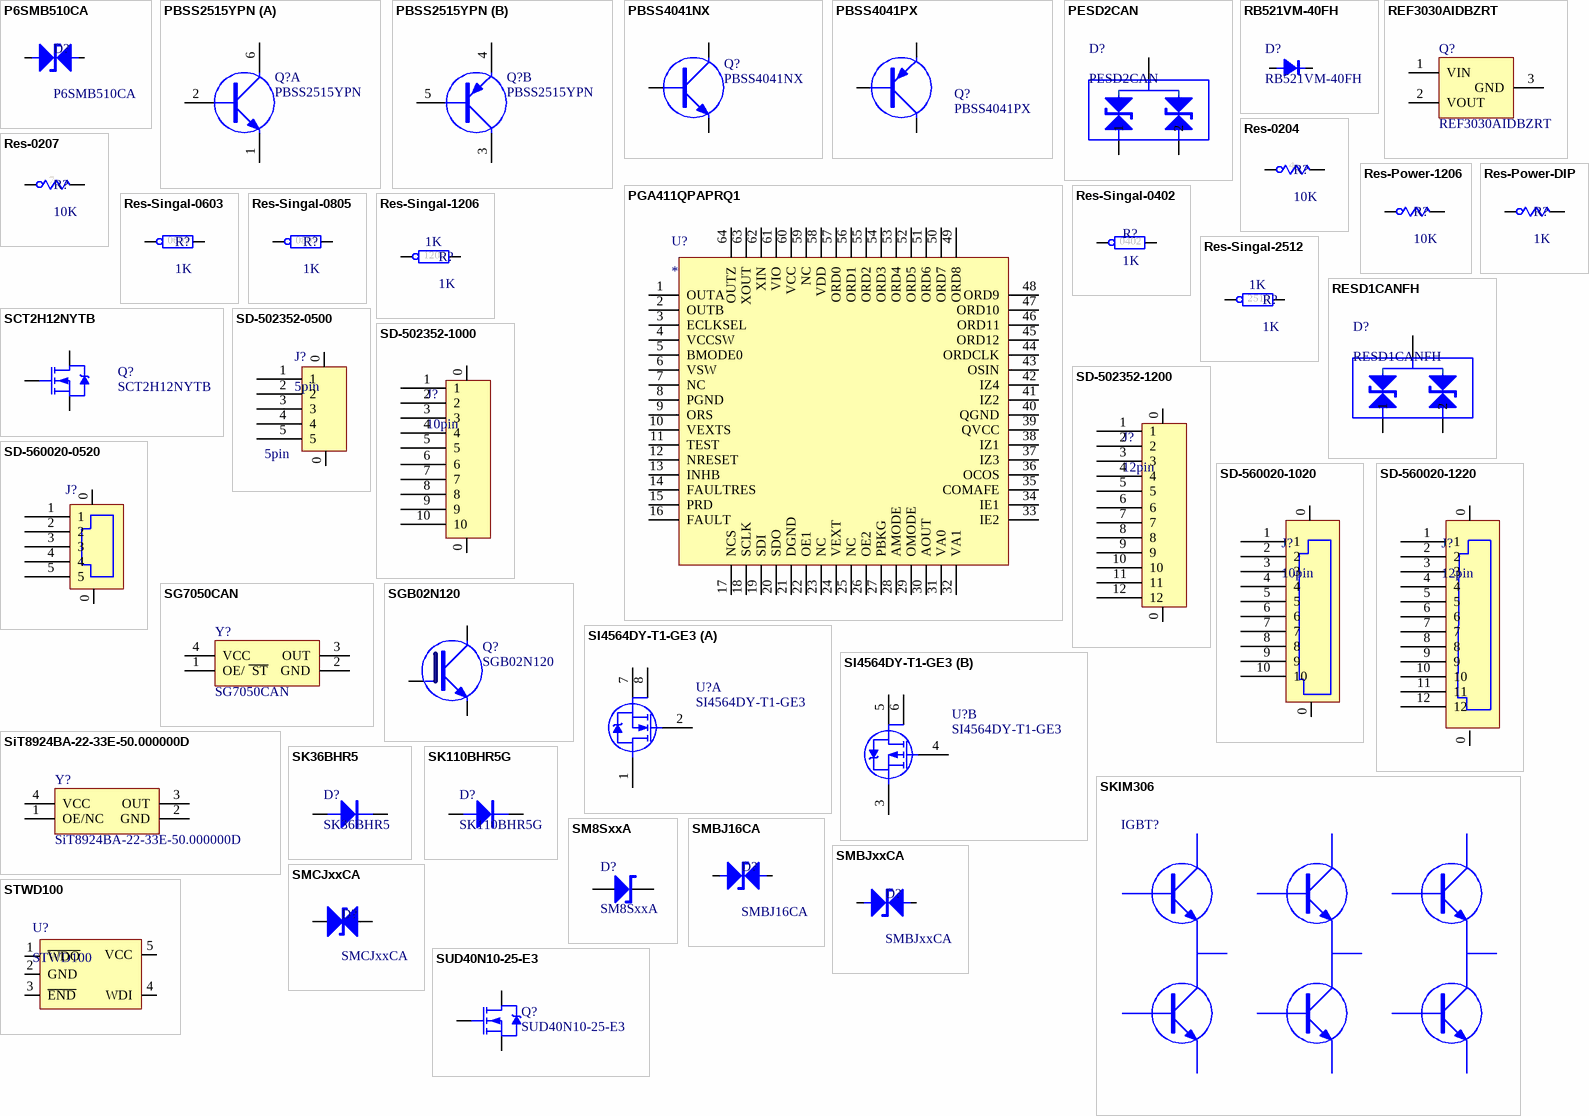
[diagram p5: symbols P6SMB510CA to SUD40N10-25-E3]

## P6SMB510CA
designator D?
Transient Voltage Suppressors; peak power: 600W; breakdown voltage: 510V; Brand: NXP; operating temperature: -55-150
footprint SMB (Molded Capacitor, 2-Leads, Body 5.40x3.60mm, IPC Medium Density)
pins: 1 K, 2 A

## PBSS2515YPN
designator Q?
15 V low VCE(sat) NPN/PNP transistor; Brand: DISCRETE; collector-emitter voltage: 15V; Icm: 1A
footprint SOT23-6
part A pins: 1, 2, 6
part B pins: 3, 4, 5

## PBSS4041NX
designator Q?
60 V, 6.2 A NPN low VCEsat (BISS) transistor; Brand: NXP; Vce: 60V; Ic: 6.2A
footprint SOT89 (SOT89, 3-Leads, Body 4.50x2.45mm, Pitch 1.50mm, Lead Span 4.1mm, IPC Medium Density)
pins: 1 B, 2 C, 3 E
2 alternate drawings of the same symbol

## PBSS4041PX
designator Q?
60 V, 5 A PNP low VCEsat (BISS) transistor; Brand: NXP; Vce: -60V; Ic: -5A
footprint SOT89 (SOT89, 3-Leads, Body 4.50x2.45mm, Pitch 1.50mm, Lead Span 4.1mm, IPC Medium Density)
pins: 1 B, 2 C, 3 E
2 alternate drawings of the same symbol

## PESD2CAN
designator D?
Transient  Volatge Suppressor for CAN; Brand: Nexperia; Vrwm: 24V; Vcl: 44V; Ppp: 230W; Irmax: 0.01uA
footprint SOT23
pins: 1, 2, 3

## PGA411QPAPRQ1
designator U?
Resolver Sensor Interface; Brand: TI; Grade: AECQ100
footprint HTQFP-64
pins: 1 OUTA, 2 OUTB, 3 ECLKSEL, 4 VCCSW, 5 BMODE0, 6 VSW, 7 NC, 8 PGND, 9 ORS, 10 VEXTS, 11 TEST, 12 NRESET, 13 INHB, 14 FAULTRES, 15 PRD, 16 FAULT, 17 NCS, 18 SCLK, 19 SDI, 20 SDO, 21 DGND, 22 OE1, 23 NC, 24 VEXT, 25 NC, 26 OE2, 27 PBKG, 28 AMODE, 29 OMODE, 30 AOUT, 31 VA0, 32 VA1, 33 IE2, 34 IE1, 35 COMAFE, 36 OCOS, 37 IZ3, 38 IZ1, 39 QVCC, 40 QGND, 41 IZ2, 42 IZ4, 43 OSIN, 44 ORDCLK, 45 ORD12, 46 ORD11, 47 ORD10, 48 ORD9, 49 ORD8, 50 ORD7, 51 ORD6, 52 ORD5, 53 ORD4, 54 ORD3, 55 ORD2, 56 ORD1, 57 ORD0, 58 VDD, 59 NC, 60 VCC, 61 VIO, 62 XIN, 63 XOUT, 64 OUTZ

## RB521VM-40FH
designator D?
1A, 20V - 150V Surface Mount Schottky Barrier Rectifier; Brand: ROHM; VRRM: 40V; IF(AV): 200mA; Vf: 0.3~0.54V; Grade: AECQ101; Marking Code: TE-17; Ifsm: 1A
footprint SOD323
pins: 1 K, 2 A

## REF3030AIDBZRT
designator Q?
CMOS VOLTAGE REFERENCE; Brand: TI
footprint SOT23
pins: 1 VIN, 2 VOUT, 3 GND

## Res-0204
designator R?, comment 10K
For Cylinder  Footprint; Published: 13-Jul-2017; LatestRevisionDate: 13-Jul-2017; LatestRevisionNote: IPC-7351 Footprint Added.; Publisher: Altium Limited; PackageDescription: Chip Resistor; Value: 10K
footprint RES0204
pins: 1, 2
text: 4

## Res-0207
designator R?, comment 10K
For Cylinder  Footprint; Published: 13-Jul-2017; LatestRevisionDate: 13-Jul-2017; LatestRevisionNote: IPC-7351 Footprint Added.; Publisher: Altium Limited; PackageDescription: Chip Resistor; Value: 10K
footprint Res0207
pins: 1, 2
text: 7

## Res-Power-1206
designator R?, comment 10K
For Cylinder  Footprint; Published: 13-Jul-2017; LatestRevisionDate: 13-Jul-2017; LatestRevisionNote: IPC-7351 Footprint Added.; Publisher: Altium Limited; PackageDescription: Chip Resistor; Value: 10K
footprint R1206-P (MELF Resistor, 2-Leads, Body 5.00x2.50mm, IPC Medium Density)
pins: 1, 2

## Res-Power-DIP
designator R?, comment 1K
For DIP  Footprint; Published: 13-Jul-2017; LatestRevisionDate: 13-Jul-2017; LatestRevisionNote: IPC-7351 Footprint Added.; Publisher: Altium Limited; PackageDescription: Chip Resistor; Value: 1K
footprint RES_DIP_15
pins: 1, 2

## Res-Singal-0402
designator R?, comment 1K
For SMD Resistor; Published: 13-Jul-2017; LatestRevisionDate: 13-Jul-2017; LatestRevisionNote: Re-released for DXP Platform.; Publisher: LVKON; PackageDescription: Chip Resistor; Value: 1K
footprint R0402
pins: 1, 2
text: 0402

## Res-Singal-0603
designator R?, comment 1K
For SMD Resistor; Published: 13-Jul-2017; LatestRevisionDate: 13-Jul-2017; LatestRevisionNote: Re-released for DXP Platform.; Publisher: LVKON; PackageDescription: Chip Resistor; Value: 1K
footprint R0603
pins: 1, 2
text: 0603

## Res-Singal-0805
designator R?, comment 1K
For SMD Resistor; Published: 13-Jul-2017; LatestRevisionDate: 13-Jul-2017; LatestRevisionNote: Re-released for DXP Platform.; Publisher: LVKON; PackageDescription: Chip Resistor; Value: 1K
footprint R0805
pins: 1, 2
text: 0805

## Res-Singal-1206
designator R?, comment 1K
For SMD Resistor; Published: 13-Jul-2017; LatestRevisionDate: 13-Jul-2017; LatestRevisionNote: Re-released for DXP Platform.; Publisher: LVKON; PackageDescription: Chip Resistor; Value: 1K
footprint R1206
pins: 1, 2
text: 1206

## Res-Singal-2512
designator R?, comment 1K
For SMD Resistor; Published: 13-Jul-2017; LatestRevisionDate: 13-Jul-2017; LatestRevisionNote: Re-released for DXP Platform.; Publisher: LVKON; PackageDescription: Chip Resistor; Value: 1K
footprint R2512 (Chip Resistor, 2-Leads, Body 6.35x3.20mm, IPC Medium Density)
pins: 1, 2
text: 2512

## RESD1CANFH
designator D?
Transient  Volatge Suppressor; Brand: ROHM; Vrwm: 24V; Vcl: 44V; Ppp: 350W
footprint SOT23
pins: 1, 2, 3

## SCT2H12NYTB
designator Q?
N-Channel 1700-4A-V (D-S) 175 °C MOSFET; Brand: ROHM; Vdss: 1700V; Rds(on): 1.15R; Id: 4A; Qg: 14uC
footprint TO268
pins: 1 G, 2 S, 3 D

## SD-502352-0500
designator J?, comment 5pin
Brand: Molex; Value: 5pin
footprint SD-502352-0500 (Footprint not found)
pins: 0, 0, 1, 2, 3, 4, 5

## SD-502352-1000
designator J?, comment 10pin
Brand: Molex; Value: 10pin
footprint SD-502352-1000
pins: 0, 0, 1, 2, 3, 4, 5, 6, 7, 8, 9, 10

## SD-502352-1200
designator J?, comment 12pin
Brand: Molex; Value: 12pin
footprint SD-502352-1200 (Footprint not found)
pins: 0, 0, 1, 2, 3, 4, 5, 6, 7, 8, 9, 10, 11, 12

## SD-560020-0520
designator J?
Brand: Molex; Value: 5pin
footprint SD-560020-0520
pins: 0, 0, 1, 2, 3, 4, 5

## SD-560020-1020
designator J?, comment 10pin
Brand: Molex; Value: 10pin
footprint SD-560020-1020
pins: 0, 0, 1, 2, 3, 4, 5, 6, 7, 8, 9, 10

## SD-560020-1220
designator J?, comment 12pin
Brand: Molex; Value: 12pin
footprint SD-560020-1220
pins: 0, 0, 1, 2, 3, 4, 5, 6, 7, 8, 9, 10, 11, 12

## SG7050CAN
designator Y?
Crystal OSCILLATOR 48M; Brand: SEIKO EPSON
footprint SG7050CAN (DFN, 4-Leads, Body 5.00x7.00mm, Pitch 5.08mm, IPC Medium Density)
pins: 1 OE/ ~{ ST}, 2 GND, 3 OUT, 4 VCC

## SGB02N120
designator Q?
IGBT for Normal  Using; Brand: Infineon; Vce: 1200V; Ic: 2A
footprint TO263
pins: 1, 2, 3
2 alternate drawings of the same symbol

## SI4564DY-T1-GE3
designator U?
N- and P-Channel 40 V (D-S) MOSFET; Brand: VISHAY; Vds(N): 40V; Vds(P): -40V; Id(N): 10A; Id(P): -9.2A; Qg(N): 9.8nC; Qg(P): 21.7nC; Rds(N): 17.5mR; Rds(P): 21mR
footprint SO-8
part A pins: 1 S1, 2 G1, 7 D1, 8 D1
part B pins: 3 S2, 4 G2, 5 D, 6 D

## SiT8924BA-22-33E-50.000000D
designator Y?
Crystal OSCILLATOR; Brand: SiTime; Grade: AECQ100; Frequency Stability“: 25ppm; Idd: 4.0-4.8mA
footprint Y3225
pins: 1 OE/NC, 2 GND, 3 OUT, 4 VCC

## SK36BHR5
designator D?
3A, 20V - 200V Surface Mount Schottky Barrier Rectifier; Brand: TSC; VRRM: 60V; Vf: 0.75V; IF(AV): 3A
footprint SMB (Molded Capacitor, 2-Leads, Body 5.40x3.60mm, IPC Medium Density)
pins: 1 K, 2 A

## SK110BHR5G
designator D?
1A, 20V - 150V Surface Mount Schottky Barrier Rectifier; Brand: TSC; VRRM: 70V; Vf: 0.85V; IF(AV): 1A
footprint SMB (Molded Capacitor, 2-Leads, Body 5.40x3.60mm, IPC Medium Density)
pins: 1 K, 2 A

## SKIM306
designator IGBT?

## SM8SxxA
designator D?
Surface Mount PAR® Transient Voltage Suppressors; Brand: VISHAY
footprint SM8SxxA
pins: 1, 2

## SMBJ16CA
designator D?
Transient Voltage Suppressors; peak power: 600W; breakdown voltage: 16V; Brand: DIODES; operating temperature: -55-150
footprint SMB (Molded Capacitor, 2-Leads, Body 5.40x3.60mm, IPC Medium Density)
pins: 1 K, 2 A

## SMBJxxCA
designator D?
Transient Voltage Suppressors; peak power: 600W; breakdown voltage: xxV; Brand: Vishay; operating temperature: -55-150
footprint SMB (Molded Capacitor, 2-Leads, Body 5.40x3.60mm, IPC Medium Density)
pins: 1 K, 2 A

## SMCJxxCA
designator D?
TVS; Brand: VISHAY
footprint SMC (Molded Diode, 2-Leads, Body 6.86x5.91mm, IPC Medium Density)
pins: 1, 2

## STWD100
designator U?
Watchdog timer circuit; Brand: ST; Vin: 2.7-5.5V
footprint SOT23-5
pins: 1 ~{WDO}, 2 GND, 3 ~{END}, 4 WDI, 5 VCC

## SUD40N10-25-E3
designator Q?
N-Channel 100-V (D-S) 175 °C MOSFET; Brand: VISHAY; Vdss: 100V; Rds(on): 25mR; Id: 40A
footprint TO252
pins: 1 G, 2 S, 3 D

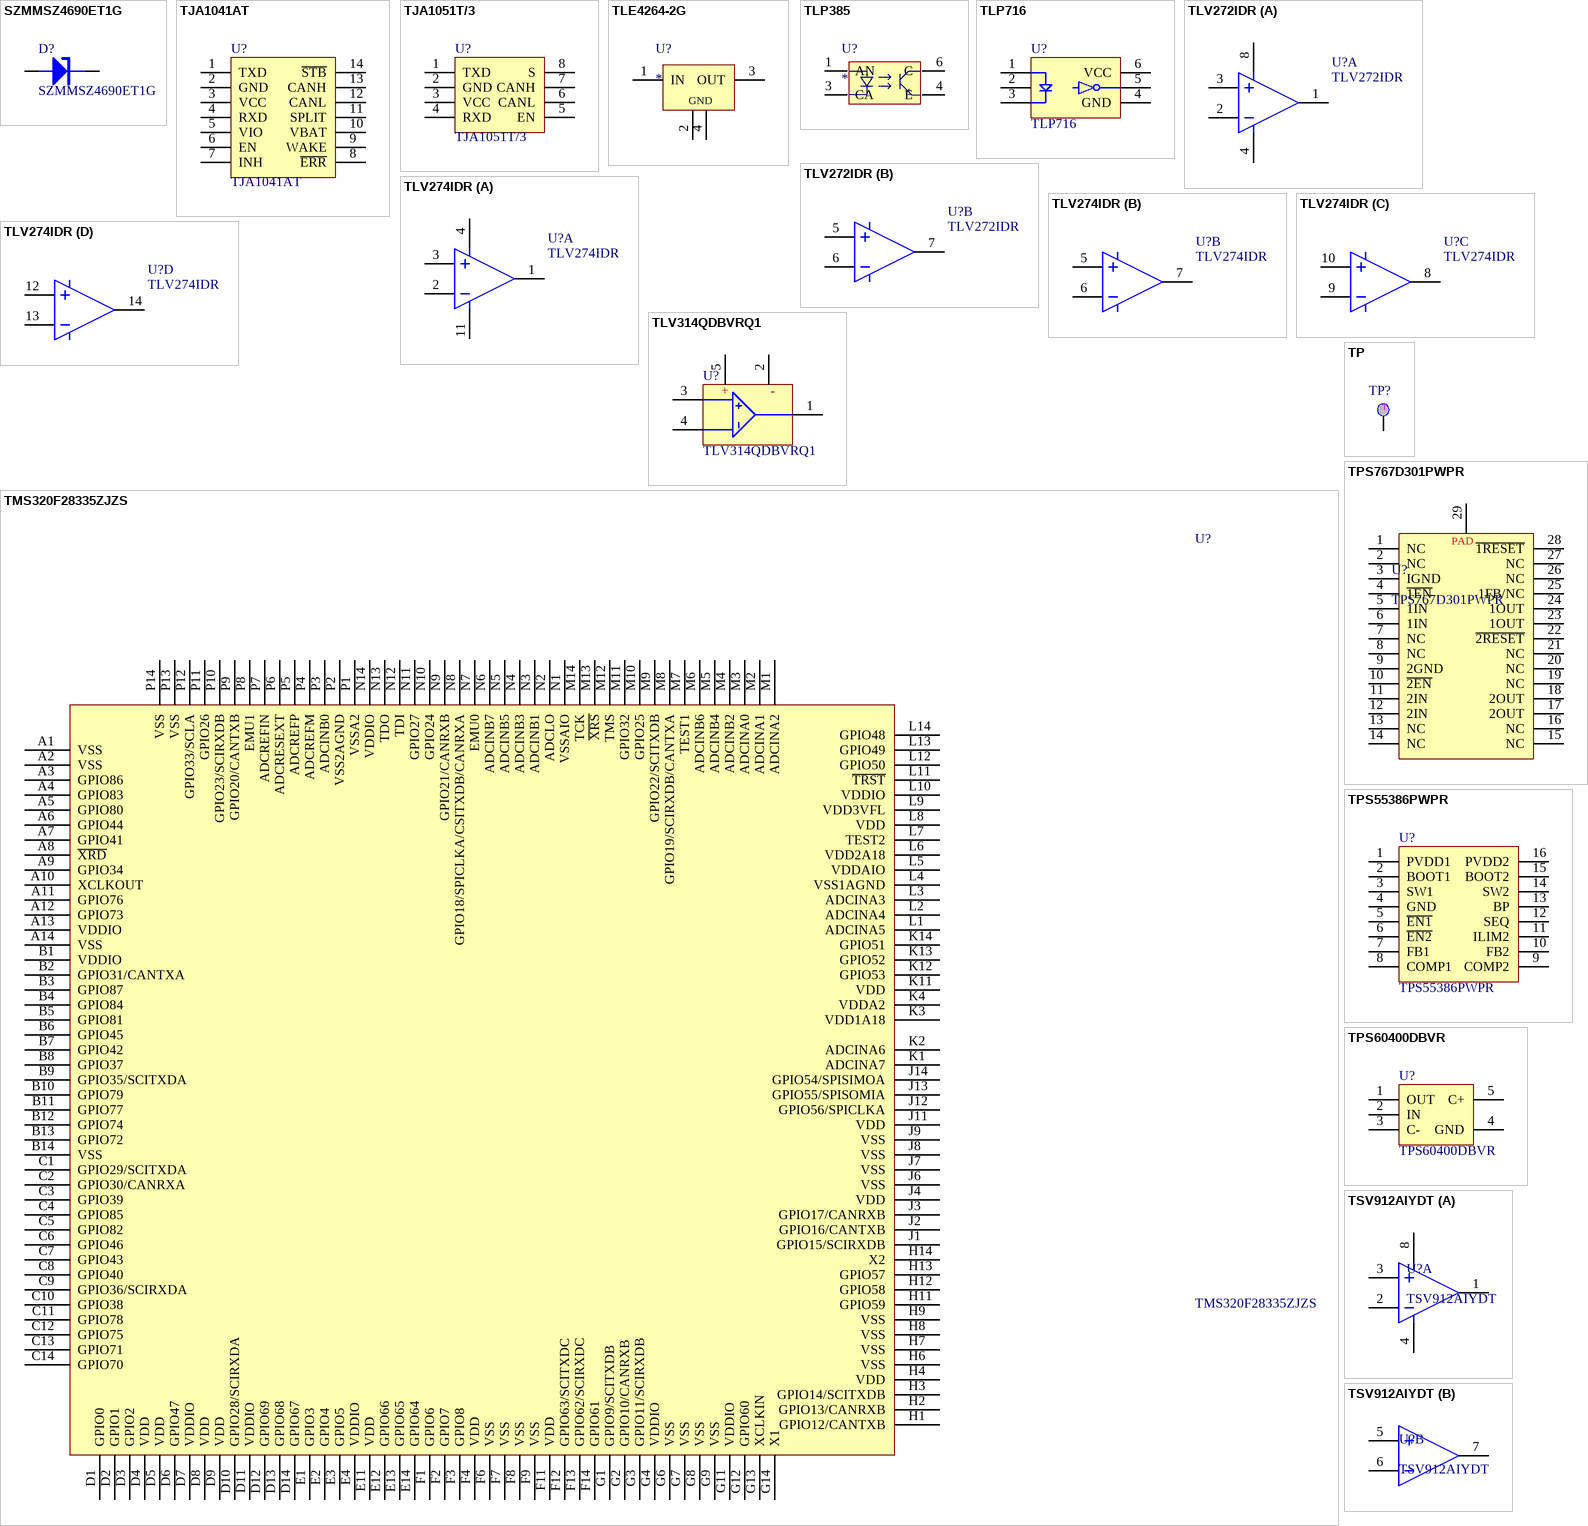
[diagram p6: symbols SZMMSZ4690ET1G to TSV912AIYDT]

## SZMMSZ4690ET1G
designator D?
Zener voltage regulators; Brand: ON Semiconductor; Zener reverse voltage: 5.6V; pead power: 225W@20us; juction temperature: -55-150℃
footprint SOD123 (SODFL, 2-Leads, Body 1.60x3.70mm, IPC Medium Density)
pins: 1, 2
2 alternate drawings of the same symbol

## TJA1041AT
designator U?
High speed CAN transceiver; Brand: NXP
footprint SO-14
pins: 1 TXD, 2 GND, 3 VCC, 4 RXD, 5 VIO, 6 EN, 7 INH, 8 ~{ERR}, 9 WAKE, 10 VBAT, 11 SPLIT, 12 CANL, 13 CANH, 14 ~{STB}

## TJA1051T/3
designator U?
High-speed CAN transceiver; Brand: NXP
footprint SO-8
pins: 1 TXD, 2 GND, 3 VCC, 4 RXD, 5 EN, 6 CANL, 7 CANH, 8 S

## TLE4264-2G
designator U?
5V LOW Drop Fixed Voltage Regulator; VinMax: 45V; VinMin: 5.5V; Imax: 50mA; Tempture: -40-150℃; Brand: Infineon
footprint SOT223 (SOT223, 4-Leads, Body 6.50x7.00mm (avg), Pitch 2.30mm, IPC Medium Density)
pins: 1 IN, 2 GND, 3 OUT, 4 GND

## TLP385
designator U?
Photocouplers GaAs Infrared LED & Photo Transistor; Brand: TOSHIBA; Isolation voltage: 5000V
footprint SO6L
pins: 1 AN, 3 CA, 4 E, 6 C

## TLP716
designator U?
The TOSHIBA TLP716F consists of a GaAℓAs light emitting diode  and a high speed photodetector.; Power Supply Voltage: 4.5-5.5 V; Brand: TOSHIBA; Temperature: −40~100°C
footprint TSOP-6
pins: 1, 2, 3, 4 GND, 5, 6 VCC

## TLV272IDR
designator U?
Dual Operational Amplifiers Rail-To-Rail Output; Brand: TI; Wide Bandwidth: 3 MHz; Supply Voltage Range: 2.7 V to 16 V; Temperature: -40 to 125
footprint SOIC-8 (SOIC, 8-Leads, Body 4.90x3.90mm, Pitch 1.27mm, IPC Medium Density)
part A pins: 1, 2, 3, 4, 8
part B pins: 5, 6, 7

## TLV274IDR
designator U?
Four Operational Amplifiers Rail-To-Rail Output; Brand: TI; Wide Bandwidth: 3 MHz; Supply Voltage Range: 2.7 V to 16 V; Temperature: -40 to 125
footprint SO-14
part A pins: 1, 2, 3, 4, 11
part B pins: 5, 6, 7
part C pins: 8, 9, 10
part D pins: 12, 13, 14

## TLV314QDBVRQ1
designator U?
TLVx314-Q1 3-MHz, Low-Power, Internal EMI Filter, RRIO, Operational Amplifier; Brand: TI; Supply Voltage: 1.8-5.5V; PACKAGE MARKING: 16SD; Input Offset Voltage: ±750uV; Input Bias Current: ±1pA; Gain-Bandwidth Product: 3MHz; Slew Rate: 1.5V/us; Grade: AECQ100; Operating Temperature: –55 to +125
footprint SOT23-5
pins: 1 OUT, 2 V-, 3 +IN, 4 -IN, 5 V+
text: +; -

## TMS320F28335ZJZS
designator U?
Digital Signal Controllers; Brand: TI
footprint FBGA-176P (Footprint not found)
pins: A1 VSS, A2 VSS, A3 GPIO86, A4 GPIO83, A5 GPIO80, A6 GPIO44, A7 GPIO41, A8 ~{XRD}, A9 GPIO34, A10 XCLKOUT, A11 GPIO76, A12 GPIO73, A13 VDDIO, A14 VSS, B1 VDDIO, B2 GPIO31/CANTXA, B3 GPIO87, B4 GPIO84, B5 GPIO81, B6 GPIO45, B7 GPIO42, B8 GPIO37, B9 GPIO35/SCITXDA, B10 GPIO79, B11 GPIO77, B12 GPIO74, B13 GPIO72, B14 VSS, C1 GPIO29/SCITXDA, C2 GPIO30/CANRXA, C3 GPIO39, C4 GPIO85, C5 GPIO82, C6 GPIO46, C7 GPIO43, C8 GPIO40, C9 GPIO36/SCIRXDA, C10 GPIO38, C11 GPIO78, C12 GPIO75, C13 GPIO71, C14 GPIO70, D1 GPIO0, D2 GPIO1, D3 GPIO2, D4 VDD, D5 VDD, D6 GPIO47, D7 VDDIO, D8 VDD, D9 VDD, D10 GPIO28/SCIRXDA, D11 VDDIO, D12 GPIO69, D13 GPIO68, D14 GPIO67, E1 GPIO3, E2 GPIO4, E3 GPIO5, E4 VDDIO, E11 VDD, E12 GPIO66, E13 GPIO65, E14 GPIO64, F1 GPIO6, F2 GPIO7, F3 GPIO8, F4 VDD, F6 VSS, F7 VSS, F8 VSS, F9 VSS, F11 VDD, F12 GPIO63/SCITXDC, F13 GPIO62/SCIRXDC, F14 GPIO61, G1 GPIO9/SCITXDB, G2 GPIO10/CANRXB, G3 GPIO11/SCIRXDB, G4 VDDIO, G6 VSS, G7 VSS, G8 VSS, G9 VSS, G11 VDDIO, G12 GPIO60, G13 XCLKIN, G14 X1, H1 GPIO12/CANTXB, H2 GPIO13/CANRXB, H3 GPIO14/SCITXDB, H4 VDD, H6 VSS, H7 VSS, H8 VSS, H9 VSS, H11 GPIO59, H12 GPIO58, H13 GPIO57, H14 X2, J1 GPIO15/SCIRXDB, J2 GPIO16/CANTXB, J3 GPIO17/CANRXB, J4 VDD, J6 VSS, J7 VSS, J8 VSS, J9 VSS, J11 VDD, J12 GPIO56/SPICLKA, J13 GPIO55/SPISOMIA, J14 GPIO54/SPISIMOA, K1 ADCINA7, K2 ADCINA6, K3 VDD1A18, K4 VDDA2, K11 VDD, K12 GPIO53, K13 GPIO52, K14 GPIO51, L1 ADCINA5, L2 ADCINA4, L3 ADCINA3, L4 VSS1AGND, L5 VDDAIO, L6 VDD2A18, L7 TEST2, L8 VDD, L9 VDD3VFL, L10 VDDIO, L11 ~{TRST}, L12 GPIO50, L13 GPIO49, L14 GPIO48, M1 ADCINA2, M2 ADCINA1, M3 ADCINA0, M4 ADCINB2, M5 ADCINB4, M6 ADCINB6, M7 TEST1, M8 GPIO19/SCIRXDB/CANTXA, M9 GPIO22/SCITXDB, M10 GPIO25, M11 GPIO32, M12 TMS, M13 ~{XRS}, M14 TCK, N1 VSSAIO, N2 ADCLO, N3 ADCINB1, N4 ADCINB3, N5 ADCINB5, N6 ADCINB7, N7 EMU0, N8 GPIO18/SPICLKA/CSITXDB/CANRXA, N9 GPIO21/CANRXB, N10 GPIO24, N11 GPIO27, N12 TDI, N13 TDO, N14 VDDIO, P1 VSSA2, P2 VSS2AGND, P3 ADCINB0, P4 ADCREFM, P5 ADCREFP, P6 ADCRESEXT, P7 ADCREFIN, P8 EMU1, P9 GPIO20/CANTXB, P10 GPIO23/SCIRXDB, P11 GPIO26, P12 GPIO33/SCLA, P13 VSS, P14 VSS

## TP
designator TP?  (value not drawn)
Test Ponit for Function Test
footprint TP_0.8
footprint TP_1.0
pins: 1
text: T

## TPS767D301PWPR
designator U?
DUAL-OUTPUT LOW-DROPOUT VOLTAGE REGULATORS; Brand: TI; Op Temp: -40 to 125; VIN: 2.7-10V; Vout: 1.5-5.5V; Mark: PS767D301
footprint HTSSOP-28
pins: 1 NC, 2 NC, 3 IGND, 4 ~{1EN}, 5 1IN, 6 1IN, 7 NC, 8 NC, 9 2GND, 10 ~{2EN}, 11 2IN, 12 2IN, 13 NC, 14 NC, 15 NC, 16 NC, 17 2OUT, 18 2OUT, 19 NC, 20 NC, 21 NC, 22 ~{2RESET}, 23 1OUT, 24 1OUT, 25 1FB/NC, 26 NC, 27 NC, 28 ~{1RESET}, 29
text: PAD

## TPS55386PWPR
designator U?
3-A DUAL NON-SYNCHRONOUS CONVERTER WITH INTEGRATED HIGH-SIDE MOSFET  AND EXTERNAL COMPENSATION  23; Brand: TI; Input Range: 4.5V to 28V; Frequency: 600 kHz; Operating junction temperature: -40 to 125; Vfb1,fb2: 800mV
footprint SSOP-16
pins: 1 PVDD1, 2 BOOT1, 3 SW1, 4 GND, 5 ~{EN1}, 6 ~{EN2}, 7 FB1, 8 COMP1, 9 COMP2, 10 FB2, 11 ILIM2, 12 SEQ, 13 BP, 14 SW2, 15 BOOT2, 16 PVDD2

## TPS60400DBVR
designator U?
TPS6040x Unregulated 60-mA Charge Pump Voltage Inverter; Brand: TI
footprint SOT23-5
pins: 1 OUT, 2 IN, 3 C-, 4 GND, 5 C+

## TSV912AIYDT
designator U?
Rail-to-rail input/output 8MHz operational amplifiers; Input voltage supply: 2.5-5.5v; Brand: ST; Operating Temperature: -65-150℃
footprint SO-8
part A pins: 1, 2, 3, 4, 8
part B pins: 5, 6, 7

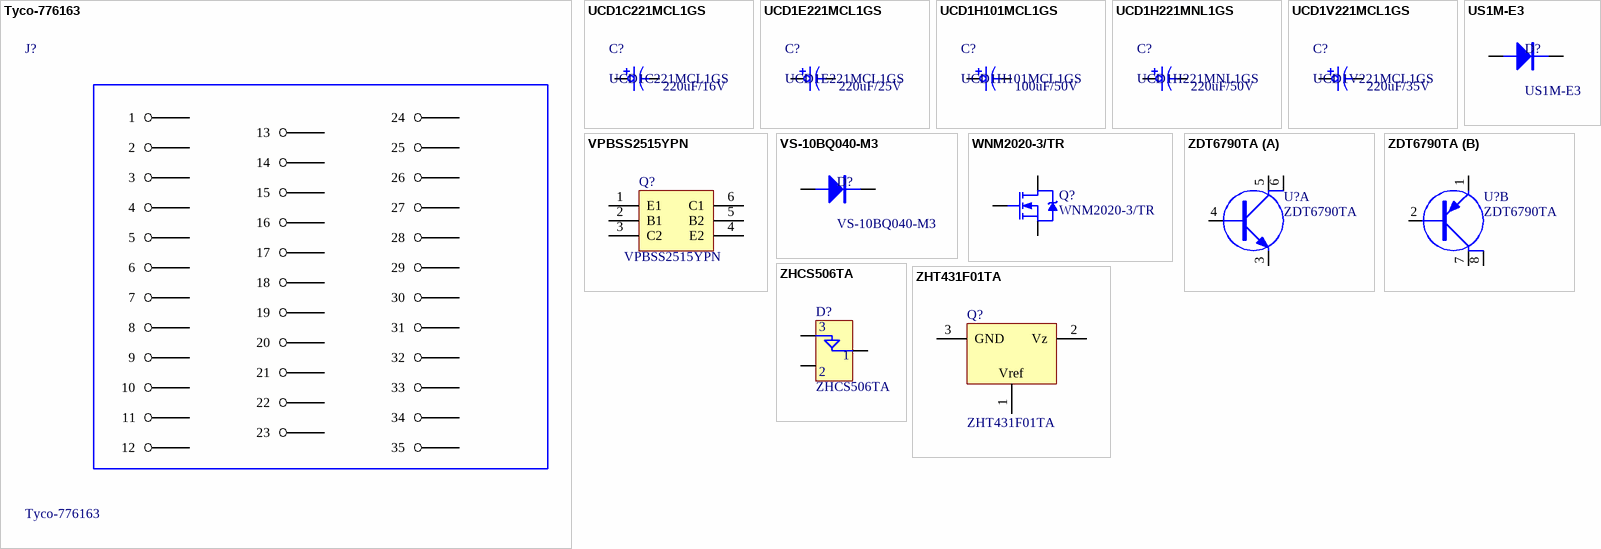
[diagram p7: symbols Tyco-776163 to ZHT431F01TA]

## Tyco-776163
designator J?
Tyco Electronics/AMPSEAL 1-776163-1, 35 pin, male; Brand: TE; Part Field 1: Tyco Electronics/AMPSEAL 1-776163-1, 35 pin, male
footprint Tyco-776163
pins: 1, 2, 3, 4, 5, 6, 7, 8, 9, 10, 11, 12, 13, 14, 15, 16, 17, 18, 19, 20, 21, 22, 23, 24, 25, 26, 27, 28, 29, 30, 31, 32, 33, 34, 35

## UCD1C221MCL1GS
designator C?  value 220uF/16V
Nichion for CAP; Brand: Nichion
footprint CAP_SMD_6R3_7R7
pins: 1, 2

## UCD1E221MCL1GS
designator C?  value 220uF/25V
Nichion for CAP; Brand: Nichion
footprint CAP_SMD_0810
footprint CAP_SMD_10_7R7
pins: 1, 2

## UCD1H101MCL1GS
designator C?  value 100uF/50V
Nichion for CAP; Brand: Nichion
footprint CAP_SMD_0810
pins: 1, 2

## UCD1H221MNL1GS
designator C?  value 220uF/50V
Nichion for CAP; Brand: Nichion
footprint CAP_SMD_1010 (Aluminum Electrolytic Capacitor, Body 10.55x10.30x10.50mm, IPC Low Density)
pins: 1, 2

## UCD1V221MCL1GS
designator C?  value 220uF/35V
Nichion for CAP; Brand: Nichion
footprint CAP_SMD_0810
footprint CAP_SMD_10_7R7
pins: 1, 2

## US1M-E3
designator D?
Ultrafast Power Rectifier; Brand: VISHAY; junction temperature: -65-175℃; forward voltage: 1.7V@1A,150℃; peak repetitive reverse voltage: 1000V; average rectified forward current: 1A
footprint SMA (SODFL, 2-Leads, Body 2.60x5.30mm, IPC Medium Density)
pins: 1 K, 2 A

## VPBSS2515YPN
designator Q?
footprint SOT23-6
pins: 1 E1, 2 B1, 3 C2, 4 E2, 5 B2, 6 C1